# Altium schematic symbol library CD4000系列.SCHLIB: 168 symbols (part 1 of 2)
Pins are listed as number, name and electrical type; pins without a type are passive.

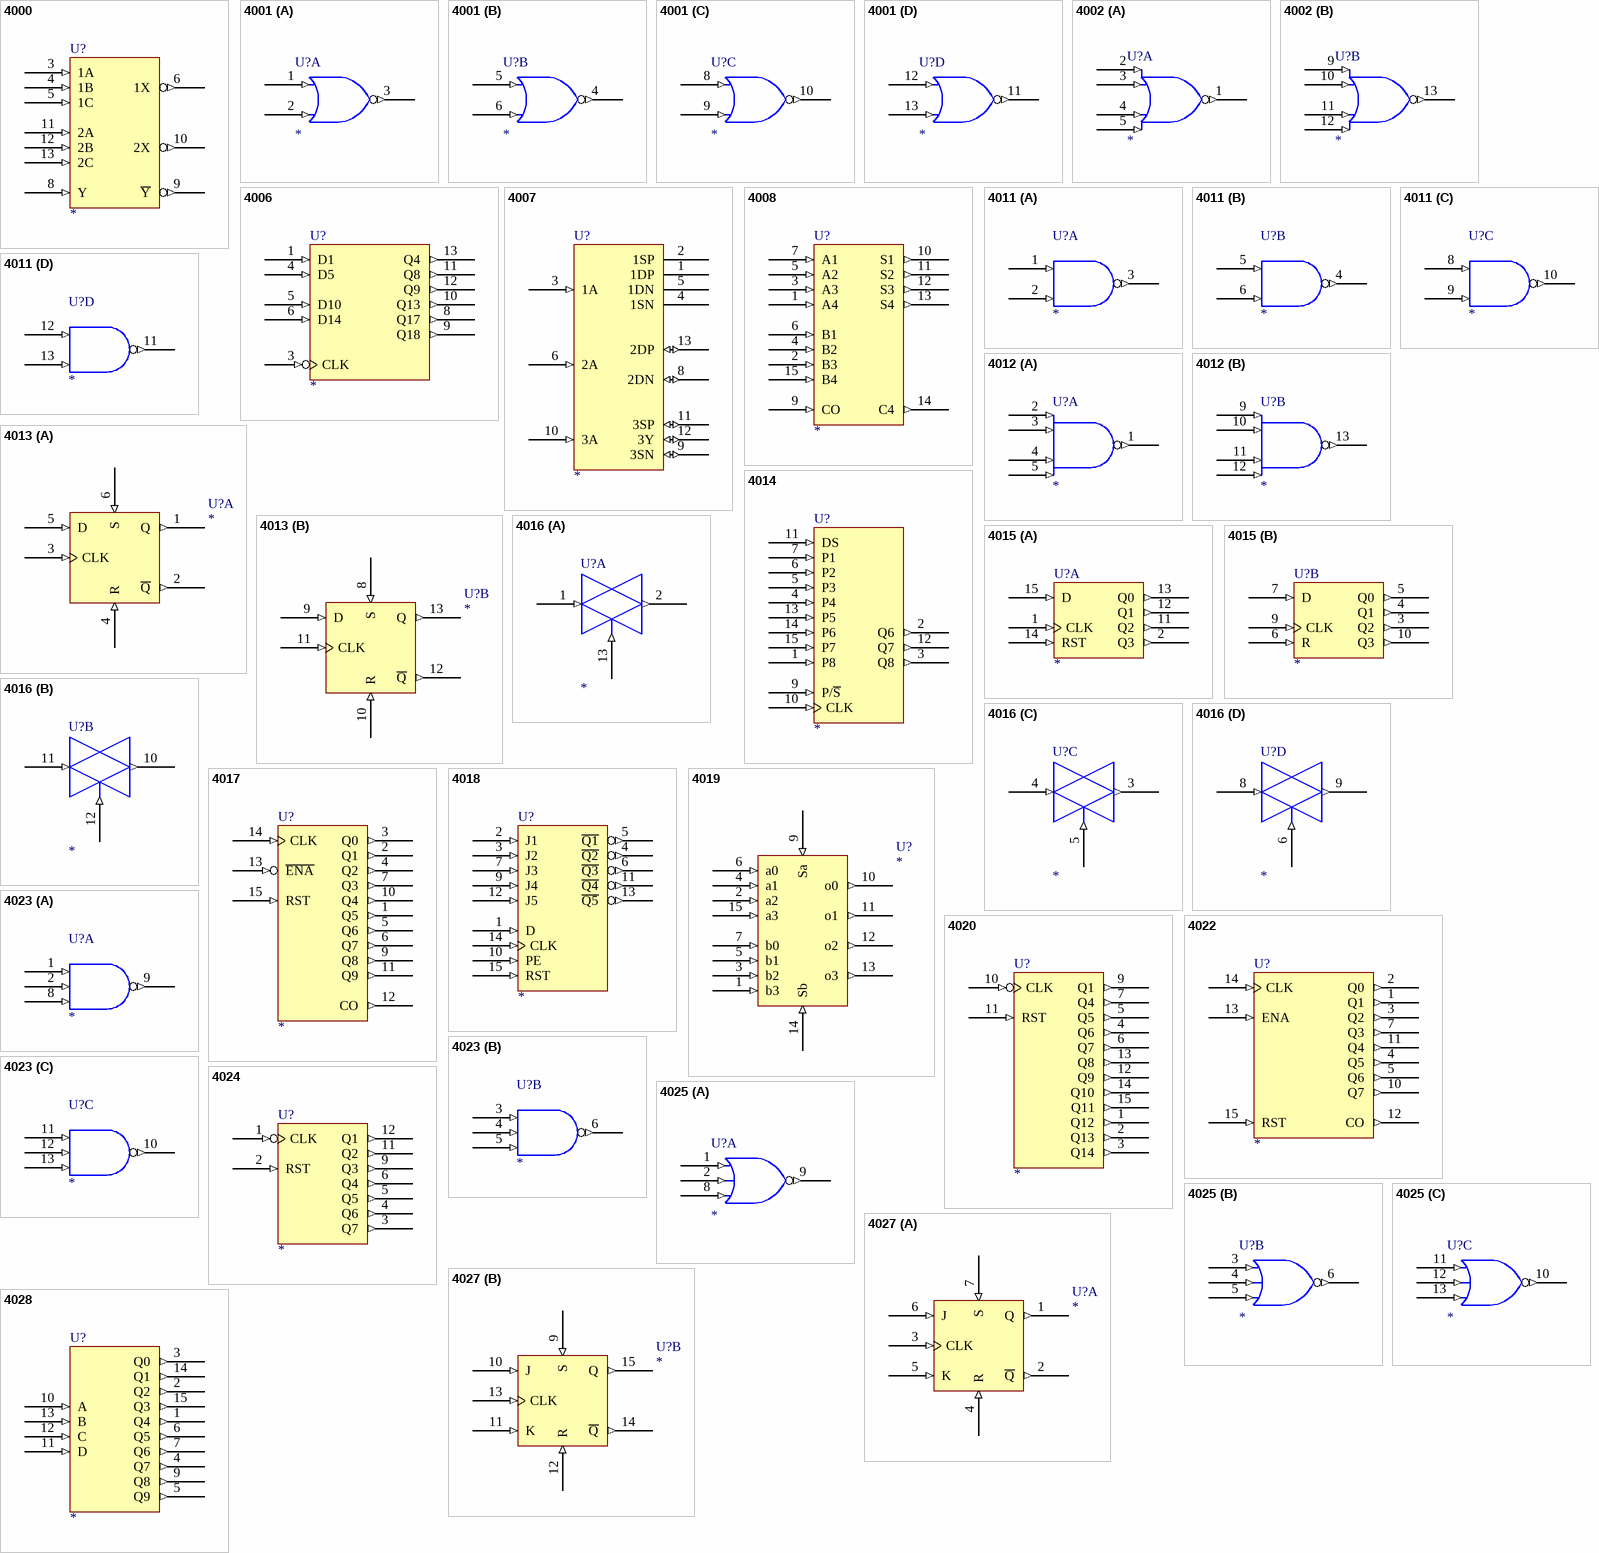
[diagram p0: symbols 4000 to 4028]

## 4000
designator U?
footprint SOP-14
pins: 3 1A (in), 4 1B (in), 5 1C (in), 6 1X (out), 7 GND (power) hidden to GND, 8 Y (in), 9 ~{Y} (out), 10 2X (out), 11 2A (in), 12 2B (in), 13 2C (in), 14 VCC (power) hidden to VCC

## 4001
designator U?
footprint DIP-14
part A pins: 1 (in), 2 (in), 3 (out), 7 GND (power) hidden to GND, 14 VCC (power) hidden to VCC
part B pins: 4 (out), 5 (in), 6 (in), 7 GND (power) hidden to GND, 14 VCC (power) hidden to VCC
part C pins: 7 GND (power) hidden to GND, 8 (in), 9 (in), 10 (out), 14 VCC (power) hidden to VCC
part D pins: 7 GND (power) hidden to GND, 11 (out), 12 (in), 13 (in), 14 VCC (power) hidden to VCC

## 4002
designator U?
footprint DIP-14
part A pins: 1 (out), 2 (in), 3 (in), 4 (in), 5 (in), 7 GND (power) hidden to GND, 14 VCC (power) hidden to VCC
part B pins: 7 GND (power) hidden to GND, 9 (in), 10 (in), 11 (in), 12 (in), 13 (out), 14 VCC (power) hidden to VCC

## 4006
designator U?
footprint DIP-14
pins: 1 D1 (in), 3 CLK (in), 4 D5 (in), 5 D10 (in), 6 D14 (in), 7 GND (power) hidden to GND, 8 Q17 (out), 9 Q18 (out), 10 Q13 (out), 11 Q8 (out), 12 Q9 (out), 13 Q4 (out), 14 VCC (power) hidden to VCC

## 4007
designator U?
footprint DIP-14
pins: 1 1DP (oc), 2 1SP (oc), 3 1A (in), 4 1SN (oc), 5 1DN (oc), 6 2A (in), 7 GND (in) hidden to GND, 8 2DN (io), 9 3SN (io), 10 3A (in), 11 3SP (io), 12 3Y (io), 13 2DP (io), 14 VCC (in) hidden to VCC

## 4008
designator U?
footprint DIP-16
pins: 1 A4 (in), 2 B3 (in), 3 A3 (in), 4 B2 (in), 5 A2 (in), 6 B1 (in), 7 A1 (in), 8 GND (power) hidden to GND, 9 CO (in), 10 S1 (out), 11 S2 (out), 12 S3 (out), 13 S4 (out), 14 C4 (out), 15 B4 (in), 16 VCC (power) hidden to VCC

## 4011
designator U?
footprint DIP-14
part A pins: 1 (in), 2 (in), 3 (out), 7 GND (power) hidden to GND, 14 VCC (power) hidden to VCC
part B pins: 4 (out), 5 (in), 6 (in), 7 GND (power) hidden to GND, 14 VCC (power) hidden to VCC
part C pins: 7 GND (power) hidden to GND, 8 (in), 9 (in), 10 (out), 14 VCC (power) hidden to VCC
part D pins: 7 GND (power) hidden to GND, 11 (out), 12 (in), 13 (in), 14 VCC (power) hidden to VCC

## 4012
designator U?
footprint DIP-14
part A pins: 1 (out), 2 (in), 3 (in), 4 (in), 5 (in), 7 GND (power) hidden to GND, 14 VCC (power) hidden to VCC
part B pins: 7 GND (power) hidden to GND, 9 (in), 10 (in), 11 (in), 12 (in), 13 (out), 14 VCC (power) hidden to VCC

## 4013
designator U?
footprint DIP-14
part A pins: 1 Q (out), 2 ~{Q} (out), 3 CLK (in), 4 R (in), 5 D (in), 6 S (in), 7 GND (power) hidden to GND, 14 VCC (power) hidden to VCC
part B pins: 7 GND (power) hidden to GND, 8 S (in), 9 D (in), 10 R (in), 11 CLK (in), 12 ~{Q} (out), 13 Q (out), 14 VCC (power) hidden to VCC

## 4014
designator U?
footprint DIP-16
pins: 1 P8 (in), 2 Q6 (out), 3 Q8 (out), 4 P4 (in), 5 P3 (in), 6 P2 (in), 7 P1 (in), 8 GND (power) hidden to GND, 9 P/~{S} (in), 10 CLK (in), 11 DS (in), 12 Q7 (out), 13 P5 (in), 14 P6 (in), 15 P7 (in), 16 VCC (power) hidden to VCC

## 4015
designator U?
footprint DIP-16
part A pins: 1 CLK (in), 2 Q3 (out), 8 GND (power) hidden to GND, 11 Q2 (out), 12 Q1 (out), 13 Q0 (out), 14 RST (in), 15 D (in), 16 VCC (power) hidden to VCC
part B pins: 3 Q2 (out), 4 Q1 (out), 5 Q0 (out), 6 R (in), 7 D (in), 8 GND (power) hidden to GND, 9 CLK (in), 10 Q3 (out), 16 VCC (power) hidden to VCC

## 4016
designator U?
footprint DIP-14
part A pins: 1 (in), 2 (out), 7 GND (power) hidden to GND, 13 (in), 14 VCC (power) hidden to VCC
part B pins: 7 GND (power) hidden to GND, 10 (out), 11 (in), 12 (in), 14 VCC (power) hidden to VCC
part C pins: 3 (out), 4 (in), 5 (in), 7 GND (power) hidden to GND, 14 VCC (power) hidden to VCC
part D pins: 6 (in), 7 GND (power) hidden to GND, 8 (in), 9 (out), 14 VCC (power) hidden to VCC

## 4017
designator U?
footprint DIP-16
pins: 1 Q5 (out), 2 Q1 (out), 3 Q0 (out), 4 Q2 (out), 5 Q6 (out), 6 Q7 (out), 7 Q3 (out), 8 GND (power) hidden to GND, 9 Q8 (out), 10 Q4 (out), 11 Q9 (out), 12 CO (out), 13 ~{ENA} (in), 14 CLK (in), 15 RST (in), 16 VCC (power) hidden to VCC

## 4018
designator U?
footprint DIP-16
pins: 1 D (in), 2 J1 (in), 3 J2 (in), 4 ~{Q2} (out), 5 ~{Q1} (out), 6 ~{Q3} (out), 7 J3 (in), 8 GND (power) hidden to GND, 9 J4 (in), 10 PE (in), 11 ~{Q4} (out), 12 J5 (in), 13 ~{Q5} (out), 14 CLK (in), 15 RST (in), 16 VCC (power) hidden to VCC

## 4019
designator U?
footprint DIP-16
pins: 1 b3 (in), 2 a2 (in), 3 b2 (in), 4 a1 (in), 5 b1 (in), 6 a0 (in), 7 b0 (in), 8 GND (power) hidden to GND, 9 Sa (in), 10 o0 (out), 11 o1 (out), 12 o2 (out), 13 o3 (out), 14 Sb (in), 15 a3 (in), 16 VCC (power) hidden to VCC

## 4020
designator U?
footprint DIP-16
pins: 1 Q12 (out), 2 Q13 (out), 3 Q14 (out), 4 Q6 (out), 5 Q5 (out), 6 Q7 (out), 7 Q4 (out), 8 GND (power) hidden to GND, 9 Q1 (out), 10 CLK (in), 11 RST (in), 12 Q9 (out), 13 Q8 (out), 14 Q10 (out), 15 Q11 (out), 16 VCC (power) hidden to VCC

## 4022
designator U?
footprint DIP-16
pins: 1 Q1 (out), 2 Q0 (out), 3 Q2 (out), 4 Q5 (out), 5 Q6 (out), 7 Q3 (out), 8 GND (power) hidden to GND, 10 Q7 (out), 11 Q4 (out), 12 CO (out), 13 ENA (in), 14 CLK (in), 15 RST (in), 16 VCC (power) hidden to VCC

## 4023
designator U?
footprint DIP-14
part A pins: 1 (in), 2 (in), 7 GND (power) hidden to GND, 8 (in), 9 (out), 14 VCC (power) hidden to VCC
part B pins: 3 (in), 4 (in), 5 (in), 6 (out), 7 GND (power) hidden to GND, 14 VCC (power) hidden to VCC
part C pins: 7 GND (power) hidden to GND, 10 (out), 11 (in), 12 (in), 13 (in), 14 VCC (power) hidden to VCC

## 4024
designator U?
footprint DIP-14
pins: 1 CLK (in), 2 RST (in), 3 Q7 (out), 4 Q6 (out), 5 Q5 (out), 6 Q4 (out), 7 GND (power) hidden to GND, 9 Q3 (out), 11 Q2 (out), 12 Q1 (out), 14 VCC (power) hidden to VCC

## 4025
designator U?
footprint DIP-14
part A pins: 1 (in), 2 (in), 7 GND (power) hidden to GND, 8 (in), 9 (out), 14 VCC (power) hidden to VCC
part B pins: 3 (in), 4 (in), 5 (in), 6 (out), 7 GND (power) hidden to GND, 14 VCC (power) hidden to VCC
part C pins: 7 GND (power) hidden to GND, 10 (out), 11 (in), 12 (in), 13 (in), 14 VCC (power) hidden to VCC

## 4027
designator U?
footprint DIP-16
part A pins: 1 Q (out), 2 ~{Q} (out), 3 CLK (in), 4 R (in), 5 K (in), 6 J (in), 7 S (in), 16 VCC (power) hidden to VCC
part B pins: 9 S (in), 10 J (in), 11 K (in), 12 R (in), 13 CLK (in), 14 ~{Q} (out), 15 Q (out), 16 VCC (power) hidden to VCC

## 4028
designator U?
footprint DIP-16
pins: 1 Q4 (out), 2 Q2 (out), 3 Q0 (out), 4 Q7 (out), 5 Q9 (out), 6 Q5 (out), 7 Q6 (out), 8 GND (power) hidden to GND, 9 Q8 (out), 10 A (in), 11 D (in), 12 C (in), 13 B (in), 14 Q1 (out), 15 Q3 (out), 16 VCC (power) hidden to VCC

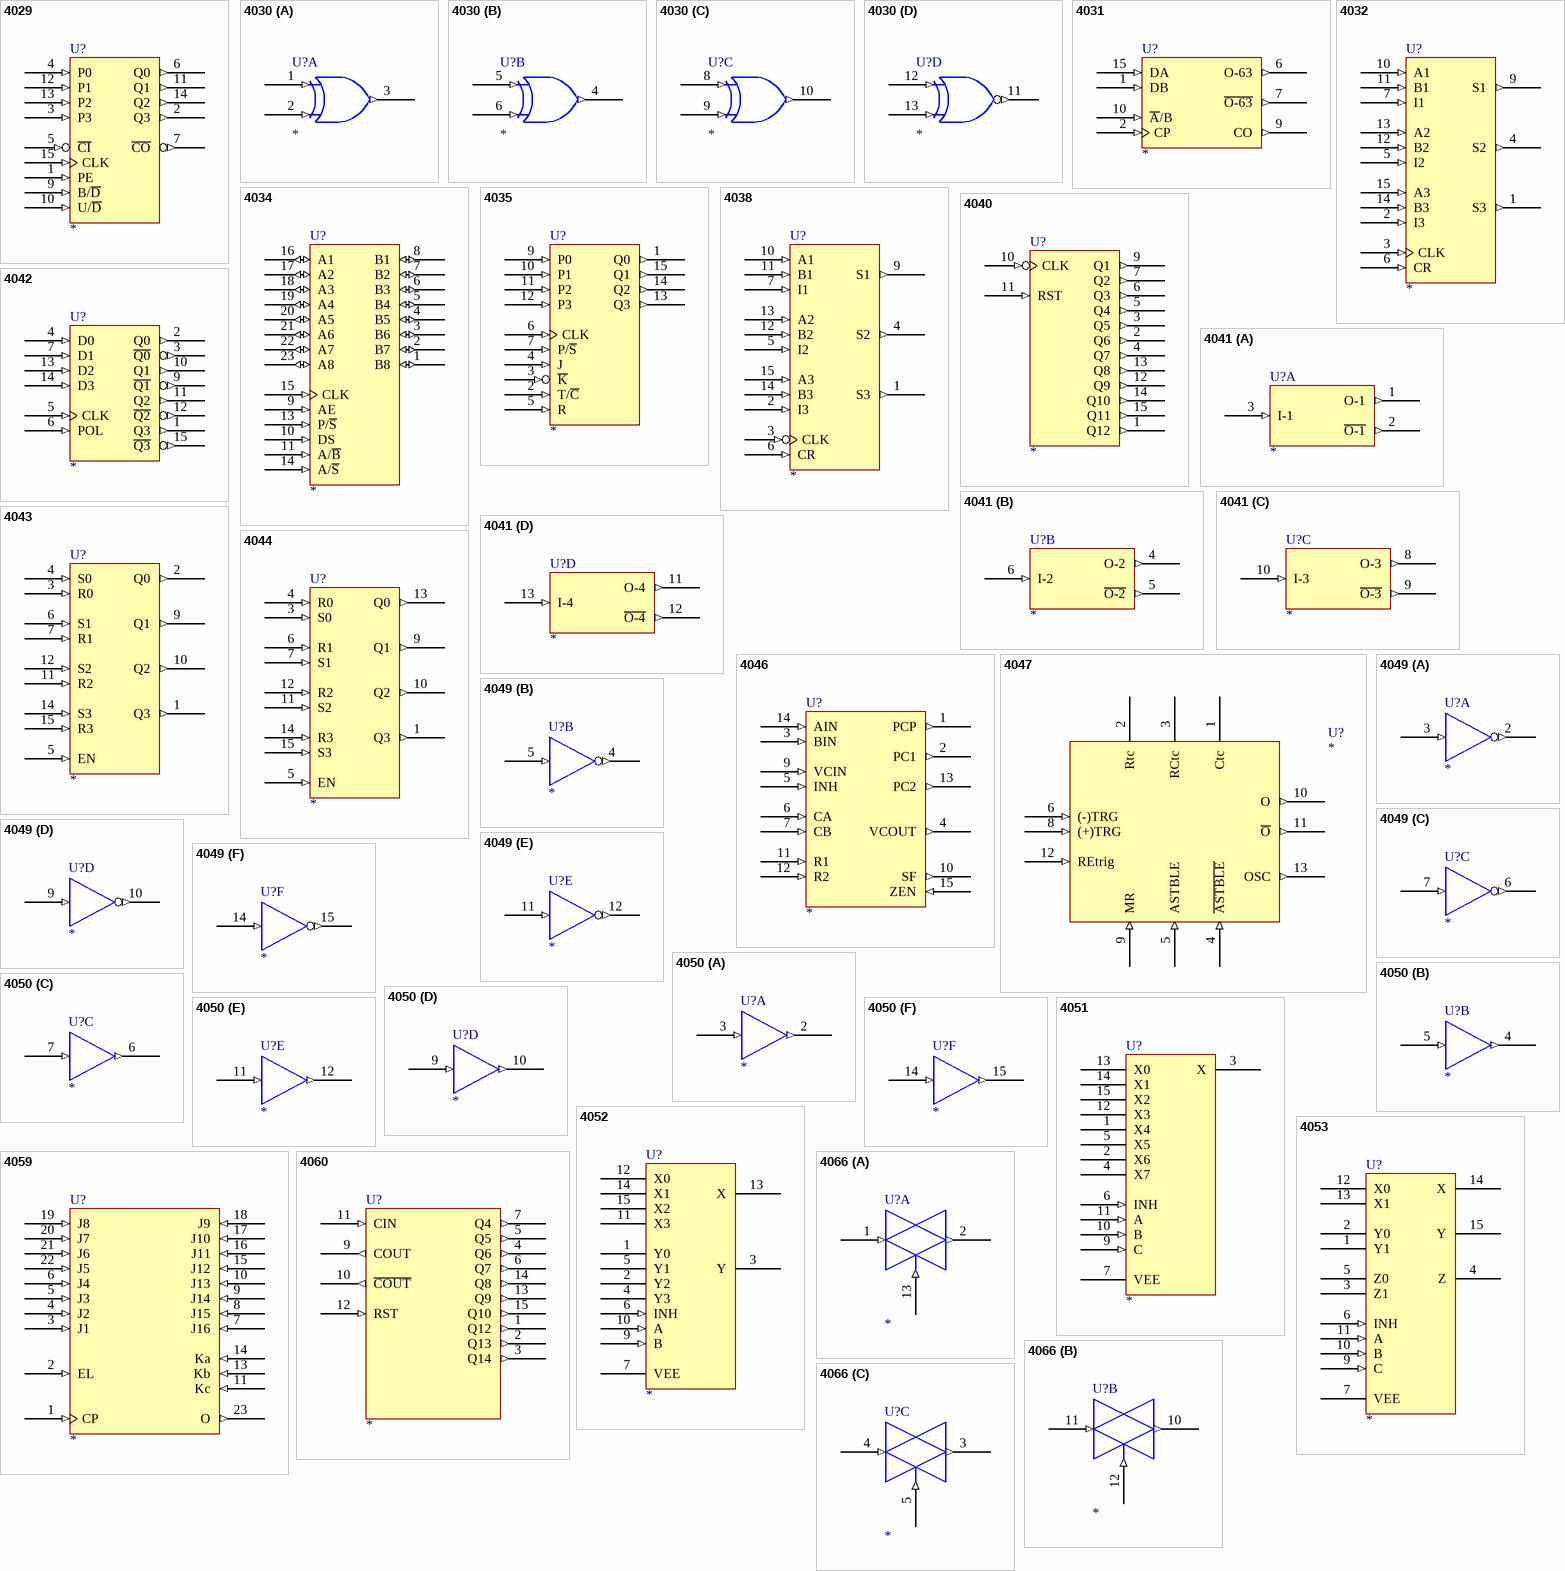
[diagram p1: symbols 4029 to 4066]

## 4029
designator U?
footprint DIP-16
pins: 1 PE (in), 2 Q3 (out), 3 P3 (in), 4 P0 (in), 5 ~{CI} (in), 6 Q0 (out), 7 ~{CO} (out), 8 GND (power) hidden to GND, 9 B/~{D} (in), 10 U/~{D} (in), 11 Q1 (out), 12 P1 (in), 13 P2 (in), 14 Q2 (out), 15 CLK (in), 16 VCC (power) hidden to VCC

## 4030
designator U?
footprint DIP-14
part A pins: 1 (in), 2 (in), 3 (out), 7 GND (power) hidden to GND, 14 VCC (power) hidden to VCC
part B pins: 4 (out), 5 (in), 6 (in), 7 GND (power) hidden to GND, 14 VCC (power) hidden to VCC
part C pins: 7 GND (power) hidden to GND, 8 (in), 9 (in), 10 (out), 14 VCC (power) hidden to VCC
part D pins: 7 GND (power) hidden to GND, 11 (out), 12 (in), 13 (in), 14 VCC (power) hidden to VCC

## 4031
designator U?
footprint DIP-16
pins: 1 DB (in), 2 CP (in), 6 O-63 (out), 7 ~{O-63} (out), 8 GND (power) hidden to GND, 9 CO (out), 10 ~{A}/B (in), 15 DA (in), 16 VCC (power) hidden to VCC

## 4032
designator U?
footprint DIP-16
pins: 1 S3 (out), 2 I3 (in), 3 CLK (in), 4 S2 (out), 5 I2 (in), 6 CR (in), 7 I1 (in), 8 GND (power) hidden to GND, 9 S1 (out), 10 A1 (in), 11 B1 (in), 12 B2 (in), 13 A2 (in), 14 B3 (in), 15 A3 (in), 16 VCC (power) hidden to VCC

## 4034
designator U?
footprint DIP-24
pins: 1 B8 (io), 2 B7 (io), 3 B6 (io), 4 B5 (io), 5 B4 (io), 6 B3 (io), 7 B2 (io), 8 B1 (io), 9 AE (in), 10 DS (in), 11 A/~{B} (in), 12 GND (power) hidden to GND, 13 P/~{S} (in), 14 A/~{S} (in), 15 CLK (in), 16 A1 (io), 17 A2 (io), 18 A3 (io), 19 A4 (io), 20 A5 (io), 21 A6 (io), 22 A7 (io), 23 A8 (io), 24 VCC (power) hidden to VCC

## 4035
designator U?
footprint DIP-16
pins: 1 Q0 (out), 2 T/~{C} (in), 3 ~{K} (in), 4 J (in), 5 R (in), 6 CLK (in), 7 P/~{S} (in), 8 GND (power) hidden to GND, 9 P0 (in), 10 P1 (in), 11 P2 (in), 12 P3 (in), 13 Q3 (out), 14 Q2 (out), 15 Q1 (out), 16 VCC (power) hidden to VCC

## 4038
designator U?
footprint DIP-16
pins: 1 S3 (out), 2 I3 (in), 3 CLK (in), 4 S2 (out), 5 I2 (in), 6 CR (in), 7 I1 (in), 8 GND (power) hidden to GND, 9 S1 (out), 10 A1 (in), 11 B1 (in), 12 B2 (in), 13 A2 (in), 14 B3 (in), 15 A3 (in), 16 VCC (power) hidden to VCC

## 4040
designator U?
footprint DIP-16
pins: 1 Q12 (out), 2 Q6 (out), 3 Q5 (out), 4 Q7 (out), 5 Q4 (out), 6 Q3 (out), 7 Q2 (out), 8 GND (power) hidden to GND, 9 Q1 (out), 10 CLK (in), 11 RST (in), 12 Q9 (out), 13 Q8 (out), 14 Q10 (out), 15 Q11 (out), 16 VCC (power) hidden to VCC

## 4041
designator U?
footprint DIP-14
part A pins: 1 O-1 (out), 2 ~{O-1} (out), 3 I-1 (in), 7 GND (power) hidden to GND, 14 VCC (power) hidden to VCC
part B pins: 4 O-2 (out), 5 ~{O-2} (out), 6 I-2 (in), 7 GND (power) hidden to GND, 14 VCC (power) hidden to VCC
part C pins: 7 GND (power) hidden to GND, 8 O-3 (out), 9 ~{O-3} (out), 10 I-3 (in), 14 VCC (power) hidden to VCC
part D pins: 7 GND (power) hidden to GND, 11 O-4 (out), 12 ~{O-4} (out), 13 I-4 (in), 14 VCC (power) hidden to VCC

## 4042
designator U?
footprint DIP-16
pins: 1 Q3 (out), 2 Q0 (out), 3 ~{Q0} (out), 4 D0 (in), 5 CLK (in), 6 POL (in), 7 D1 (in), 8 GND (power) hidden to GND, 9 ~{Q1} (out), 10 Q1 (out), 11 Q2 (out), 12 ~{Q2} (out), 13 D2 (in), 14 D3 (in), 15 ~{Q3} (out), 16 VCC (power) hidden to VCC

## 4043
designator U?
footprint DIP-16
pins: 1 Q3 (out), 2 Q0 (out), 3 R0 (in), 4 S0 (in), 5 EN (in), 6 S1 (in), 7 R1 (in), 8 GND (power) hidden to GND, 9 Q1 (out), 10 Q2 (out), 11 R2 (in), 12 S2 (in), 14 S3 (in), 15 R3 (in), 16 VCC (power) hidden to VCC

## 4044
designator U?
footprint DIP-16
pins: 1 Q3 (out), 3 S0 (in), 4 R0 (in), 5 EN (in), 6 R1 (in), 7 S1 (in), 8 GND (power) hidden to GND, 9 Q1 (out), 10 Q2 (out), 11 S2 (in), 12 R2 (in), 13 Q0 (out), 14 R3 (in), 15 S3 (in), 16 VCC (power) hidden to VCC

## 4046
designator U?
footprint DIP-16
pins: 1 PCP (out), 2 PC1 (out), 3 BIN (in), 4 VCOUT (out), 5 INH (in), 6 CA (in), 7 CB (in), 8 GND (power) hidden to GND, 9 VCIN (in), 10 SF (out), 11 R1 (in), 12 R2 (in), 13 PC2 (out), 14 AIN (in), 15 ZEN (in), 16 VCC (power) hidden to VCC

## 4047
designator U?
footprint DIP-14
pins: 1 Ctc, 2 Rtc, 3 RCtc, 4 ~{ASTBLE} (in), 5 ASTBLE (in), 6 (-)TRG (in), 7 GND (power) hidden to GND, 8 (+)TRG (in), 9 MR (in), 10 O (out), 11 ~{O} (out), 12 REtrig (in), 13 OSC (out), 14 VCC (power) hidden to VCC

## 4049
designator U?
footprint DIP-16
part A pins: 1 VCC (power) hidden to VCC, 2 (out), 3 (in), 8 GND (power) hidden to GND
part B pins: 1 VCC (power) hidden to VCC, 4 (out), 5 (in), 8 GND (power) hidden to GND
part C pins: 1 VCC (power) hidden to VCC, 6 (out), 7 (in), 8 GND (power) hidden to GND
part D pins: 1 VCC (power) hidden to VCC, 8 GND (power) hidden to GND, 9 (in), 10 (out)
part E pins: 1 VCC (power) hidden to VCC, 8 GND (power) hidden to GND, 11 (in), 12 (out)
part F pins: 1 VCC (power) hidden to VCC, 8 GND (power) hidden to GND, 14 (in), 15 (out)

## 4050
designator U?
footprint DIP-16
part A pins: 1 VCC (power) hidden to VCC, 2 (out), 3 (in), 8 GND (power) hidden to GND
part B pins: 1 VCC (power) hidden to VCC, 4 (out), 5 (in), 8 GND (power) hidden to GND
part C pins: 1 VCC (power) hidden to VCC, 6 (out), 7 (in), 8 GND (power) hidden to GND
part D pins: 1 VCC (power) hidden to VCC, 8 GND (power) hidden to GND, 9 (in), 10 (out)
part E pins: 1 VCC (power) hidden to VCC, 8 GND (power) hidden to GND, 11 (in), 12 (out)
part F pins: 1 VCC (power) hidden to VCC, 8 GND (power) hidden to GND, 14 (in), 15 (out)

## 4051
designator U?
footprint DIP-16
pins: 1 X4, 2 X6, 3 X, 4 X7, 5 X5, 6 INH (in), 7 VEE, 8 GND (power) hidden to GND, 9 C (in), 10 B (in), 11 A (in), 12 X3, 13 X0, 14 X1, 15 X2, 16 VCC (power) hidden to VCC

## 4052
designator U?
footprint DIP-16
pins: 1 Y0, 2 Y2, 3 Y, 4 Y3, 5 Y1, 6 INH (in), 7 VEE, 8 GND (power) hidden to GND, 9 B (in), 10 A (in), 11 X3, 12 X0, 13 X, 14 X1, 15 X2, 16 VCC (power) hidden to VCC

## 4053
designator U?
footprint DIP-16
pins: 1 Y1, 2 Y0, 3 Z1, 4 Z, 5 Z0, 6 INH (in), 7 VEE, 8 GND (power) hidden to GND, 9 C (in), 10 B (in), 11 A (in), 12 X0, 13 X1, 14 X, 15 Y, 16 VCC (power) hidden to VCC

## 4059
designator U?
footprint DIP-24
pins: 1 CP (in), 2 EL (in), 3 J1 (in), 4 J2 (in), 5 J3 (in), 6 J4 (in), 7 J16 (in), 8 J15 (in), 9 J14 (in), 10 J13 (in), 11 Kc (in), 12 GND (power) hidden to GND, 13 Kb (in), 14 Ka (in), 15 J12 (in), 16 J11 (in), 17 J10 (in), 18 J9 (in), 19 J8 (in), 20 J7 (in), 21 J6 (in), 22 J5 (in), 23 O (out), 24 VCC (power) hidden to VCC

## 4060
designator U?
footprint DIP-16
pins: 1 Q12 (out), 2 Q13 (out), 3 Q14 (out), 4 Q6 (out), 5 Q5 (out), 6 Q7 (out), 7 Q4 (out), 8 GND (power) hidden to GND, 9 COUT (out), 10 ~{COUT} (out), 11 CIN (in), 12 RST (in), 13 Q9 (out), 14 Q8 (out), 15 Q10 (out), 16 VCC (power) hidden to VCC

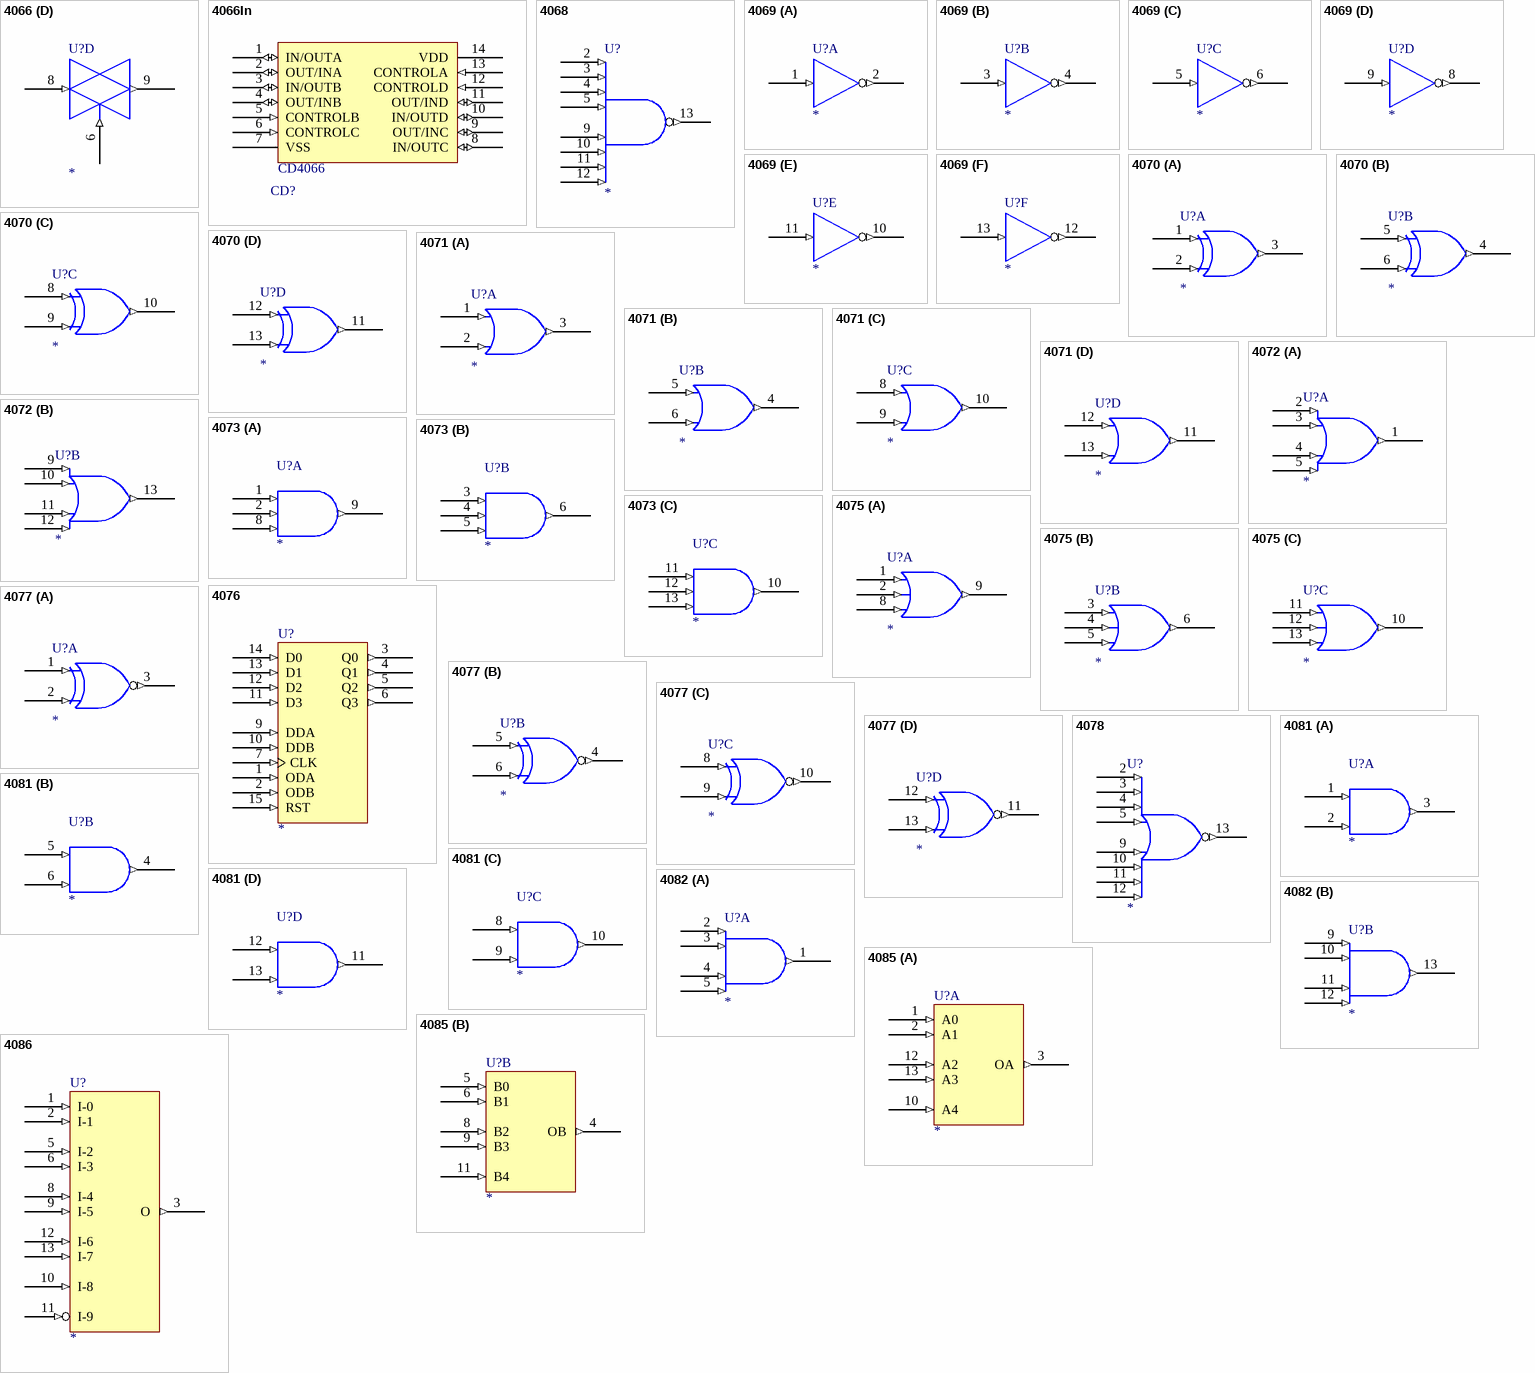
[diagram p2: symbols 4066 to 4086]

## 4066
designator U?
footprint DIP-14
footprint SOP-14
part A pins: 1 (in), 2 (out), 7 GND (power) hidden to GND, 13 (in), 14 VCC (power) hidden to VCC
part B pins: 7 GND (power) hidden to GND, 10 (out), 11 (in), 12 (in), 14 VCC (power) hidden to VCC
part C pins: 3 (out), 4 (in), 5 (in), 7 GND (power) hidden to GND, 14 VCC (power) hidden to VCC
part D pins: 6 (in), 7 GND (power) hidden to GND, 8 (in), 9 (out), 14 VCC (power) hidden to VCC

## 4066In
designator CD?  (value not drawn)
Auther: JonesLee; Publish: 09.Feb.2014
footprint SOP-14
pins: 1 IN/OUTA (io), 2 OUT/INA (io), 3 IN/OUTB (io), 4 OUT/INB (io), 5 CONTROLB (in), 6 CONTROLC (in), 7 VSS (power), 8 IN/OUTC (io), 9 OUT/INC (io), 10 IN/OUTD (io), 11 OUT/IND (io), 12 CONTROLD (in), 13 CONTROLA (in), 14 VDD (power)
text: CD4066

## 4068
designator U?
footprint DIP-14
pins: 2 (in), 3 (in), 4 (in), 5 (in), 7 GND (power) hidden to GND, 9 (in), 10 (in), 11 (in), 12 (in), 13 (out), 14 VCC (power) hidden to VCC

## 4069
designator U?
footprint DIP-14
part A pins: 1 (in), 2 (out), 7 GND (power) hidden to GND, 14 VCC (power) hidden to VCC
part B pins: 3 (in), 4 (out), 7 GND (power) hidden to GND, 14 VCC (power) hidden to VCC
part C pins: 5 (in), 6 (out), 7 GND (power) hidden to GND, 14 VCC (power) hidden to VCC
part D pins: 7 GND (power) hidden to GND, 8 (out), 9 (in), 14 VCC (power) hidden to VCC
part E pins: 7 GND (power) hidden to GND, 10 (out), 11 (in), 14 VCC (power) hidden to VCC
part F pins: 7 GND (power) hidden to GND, 12 (out), 13 (in), 14 VCC (power) hidden to VCC

## 4070
designator U?
footprint DIP-14
part A pins: 1 (in), 2 (in), 3 (out), 7 GND (power) hidden to GND, 14 VCC (power) hidden to VCC
part B pins: 4 (out), 5 (in), 6 (in), 7 GND (power) hidden to GND, 14 VCC (power) hidden to VCC
part C pins: 7 GND (power) hidden to GND, 8 (in), 9 (in), 10 (out), 14 VCC (power) hidden to VCC
part D pins: 7 GND (power) hidden to GND, 11 (out), 12 (in), 13 (in), 14 VCC (power) hidden to VCC

## 4071
designator U?
footprint DIP-14
part A pins: 1 (in), 2 (in), 3 (out), 7 GND (power) hidden to GND, 14 VCC (power) hidden to VCC
part B pins: 4 (out), 5 (in), 6 (in), 7 GND (power) hidden to GND, 14 VCC (power) hidden to VCC
part C pins: 7 GND (power) hidden to GND, 8 (in), 9 (in), 10 (out), 14 VCC (power) hidden to VCC
part D pins: 7 GND (power) hidden to GND, 11 (out), 12 (in), 13 (in), 14 VCC (power) hidden to VCC

## 4072
designator U?
footprint DIP-14
part A pins: 1 (out), 2 (in), 3 (in), 4 (in), 5 (in), 7 GND (power) hidden to GND, 14 VCC (power) hidden to VCC
part B pins: 7 GND (power) hidden to GND, 9 (in), 10 (in), 11 (in), 12 (in), 13 (out), 14 VCC (power) hidden to VCC

## 4073
designator U?
footprint DIP-14
part A pins: 1 (in), 2 (in), 7 GND (power) hidden to GND, 8 (in), 9 (out), 14 VCC (power) hidden to VCC
part B pins: 3 (in), 4 (in), 5 (in), 6 (out), 7 GND (power) hidden to GND, 14 VCC (power) hidden to VCC
part C pins: 7 GND (power) hidden to GND, 10 (out), 11 (in), 12 (in), 13 (in), 14 VCC (power) hidden to VCC

## 4075
designator U?
footprint DIP-14
part A pins: 1 (in), 2 (in), 7 GND (power) hidden to GND, 8 (in), 9 (out), 14 VCC (power) hidden to VCC
part B pins: 3 (in), 4 (in), 5 (in), 6 (out), 7 GND (power) hidden to GND, 14 VCC (power) hidden to VCC
part C pins: 7 GND (power) hidden to GND, 10 (out), 11 (in), 12 (in), 13 (in), 14 VCC (power) hidden to VCC

## 4076
designator U?
footprint DIP-16
pins: 1 ODA (in), 2 ODB (in), 3 Q0 (out), 4 Q1 (out), 5 Q2 (out), 6 Q3 (out), 7 CLK (in), 8 GND (power) hidden to GND, 9 DDA (in), 10 DDB (in), 11 D3 (in), 12 D2 (in), 13 D1 (in), 14 D0 (in), 15 RST (in), 16 VCC (power) hidden to VCC

## 4077
designator U?
footprint DIP-14
part A pins: 1 (in), 2 (in), 3 (out), 7 GND (power) hidden to GND, 14 VCC (power) hidden to VCC
part B pins: 4 (out), 5 (in), 6 (in), 7 GND (power) hidden to GND, 14 VCC (power) hidden to VCC
part C pins: 7 GND (power) hidden to GND, 8 (in), 9 (in), 10 (out), 14 VCC (power) hidden to VCC
part D pins: 7 GND (power) hidden to GND, 11 (out), 12 (in), 13 (in), 14 VCC (power) hidden to VCC

## 4078
designator U?
footprint DIP-14
pins: 2 (in), 3 (in), 4 (in), 5 (in), 7 GND (power) hidden to GND, 9 (in), 10 (in), 11 (in), 12 (in), 13 (out), 14 VCC (power) hidden to VCC

## 4081
designator U?
footprint DIP-14
part A pins: 1 (in), 2 (in), 3 (out), 7 GND (power) hidden to GND, 14 VCC (power) hidden to VCC
part B pins: 4 (out), 5 (in), 6 (in), 7 GND (power) hidden to GND, 14 VCC (power) hidden to VCC
part C pins: 7 GND (power) hidden to GND, 8 (in), 9 (in), 10 (out), 14 VCC (power) hidden to VCC
part D pins: 7 GND (power) hidden to GND, 11 (out), 12 (in), 13 (in), 14 VCC (power) hidden to VCC

## 4082
designator U?
footprint DIP-14
part A pins: 1 (out), 2 (in), 3 (in), 4 (in), 5 (in), 7 GND (power) hidden to GND, 14 VCC (power) hidden to VCC
part B pins: 7 GND (power) hidden to GND, 9 (in), 10 (in), 11 (in), 12 (in), 13 (out), 14 VCC (power) hidden to VCC

## 4085
designator U?
footprint DIP-14
part A pins: 1 A0 (in), 2 A1 (in), 3 OA (out), 7 GND (power) hidden to GND, 10 A4 (in), 12 A2 (in), 13 A3 (in), 14 VCC (power) hidden to VCC
part B pins: 4 OB (out), 5 B0 (in), 6 B1 (in), 7 GND (power) hidden to GND, 8 B2 (in), 9 B3 (in), 11 B4 (in), 14 VCC (power) hidden to VCC

## 4086
designator U?
footprint DIP-14
pins: 1 I-0 (in), 2 I-1 (in), 3 O (out), 5 I-2 (in), 6 I-3 (in), 7 GND (power) hidden to GND, 8 I-4 (in), 9 I-5 (in), 10 I-8 (in), 11 I-9 (in), 12 I-6 (in), 13 I-7 (in), 14 VCC (power) hidden to VCC

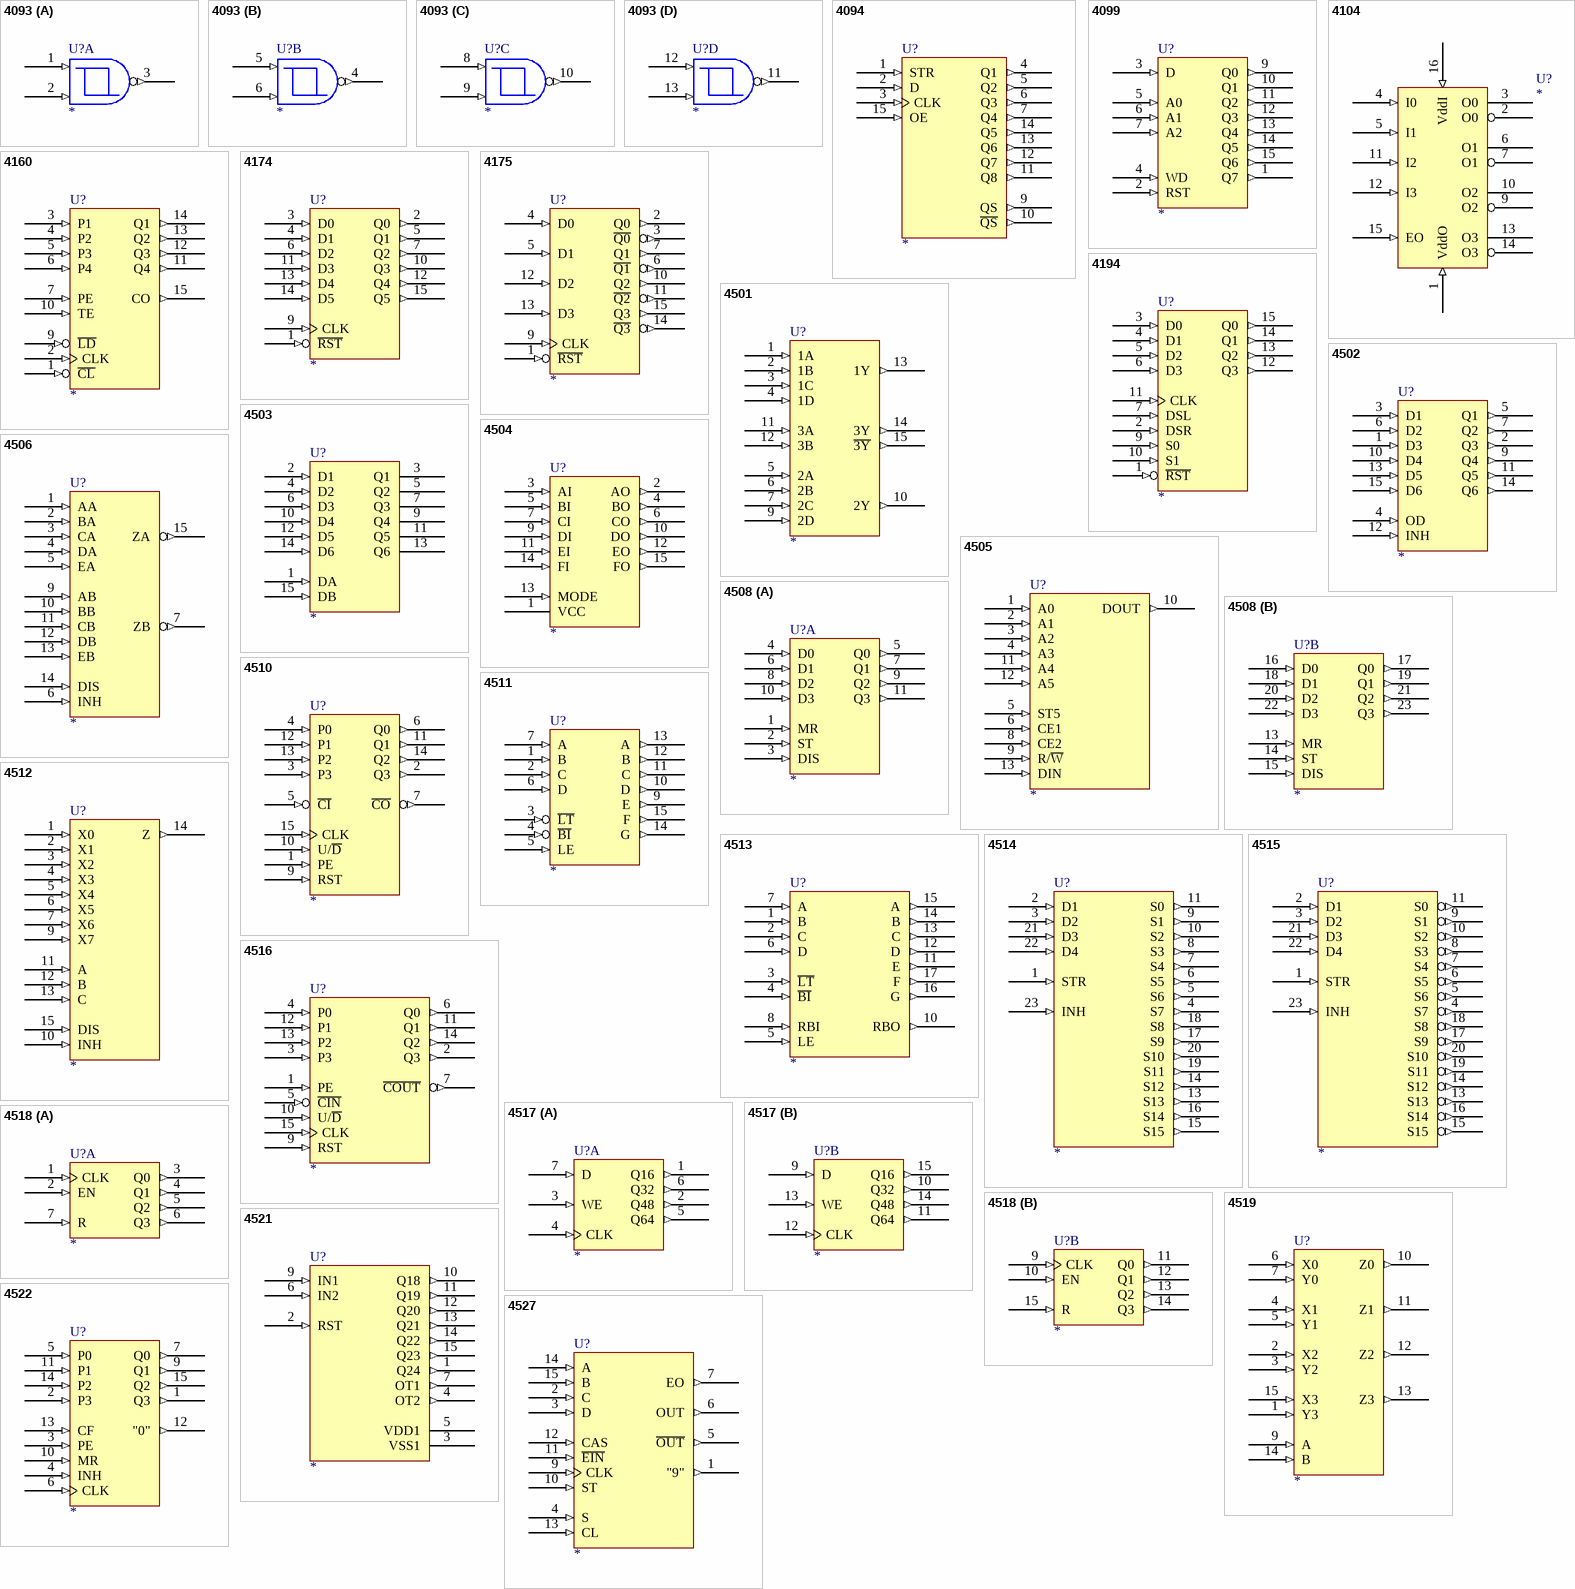
[diagram p3: symbols 4093 to 4527]

## 4093
designator U?
footprint DIP-14
part A pins: 1 (in), 2 (in), 3 (out), 7 GND (power) hidden to GND, 14 VCC (power) hidden to VCC
part B pins: 4 (out), 5 (in), 6 (in), 7 GND (power) hidden to GND, 14 VCC (power) hidden to VCC
part C pins: 7 GND (power) hidden to GND, 8 (in), 9 (in), 10 (out), 14 VCC (power) hidden to VCC
part D pins: 7 GND (power) hidden to GND, 11 (out), 12 (in), 13 (in), 14 VCC (power) hidden to VCC

## 4094
designator U?
footprint DIP-16
pins: 1 STR (in), 2 D (in), 3 CLK (in), 4 Q1 (out), 5 Q2 (out), 6 Q3 (out), 7 Q4 (out), 8 GND (power) hidden to GND, 9 QS (out), 10 ~{QS} (out), 11 Q8 (out), 12 Q7 (out), 13 Q6 (out), 14 Q5 (out), 15 OE (in), 16 VCC (power) hidden to VCC

## 4099
designator U?
footprint DIP-16
pins: 1 Q7 (out), 2 RST (in), 3 D (in), 4 WD (in), 5 A0 (in), 6 A1 (in), 7 A2 (in), 8 GND (power) hidden to GND, 9 Q0 (out), 10 Q1 (out), 11 Q2 (out), 12 Q3 (out), 13 Q4 (out), 14 Q5 (out), 15 Q6 (out), 16 VCC (power) hidden to VCC

## 4104
designator U?
footprint DIP-16
pins: 1 VddO (in), 2 O0 (hiz), 3 O0 (hiz), 4 I0 (in), 5 I1 (in), 6 O1 (hiz), 7 O1 (hiz), 8 GND (power) hidden to GND, 9 O2 (hiz), 10 O2 (hiz), 11 I2 (in), 12 I3 (in), 13 O3 (hiz), 14 O3 (hiz), 15 EO (in), 16 VddI (in)

## 4160
designator U?
footprint DIP-16
pins: 1 ~{CL} (in), 2 CLK (in), 3 P1 (in), 4 P2 (in), 5 P3 (in), 6 P4 (in), 7 PE (in), 8 GND (power) hidden to GND, 9 ~{LD} (in), 10 TE (in), 11 Q4 (out), 12 Q3 (out), 13 Q2 (out), 14 Q1 (out), 15 CO (out), 16 VCC (power) hidden to VCC

## 4174
designator U?
footprint DIP-16
pins: 1 ~{RST} (in), 2 Q0 (out), 3 D0 (in), 4 D1 (in), 5 Q1 (out), 6 D2 (in), 7 Q2 (out), 8 GND (power) hidden to GND, 9 CLK (in), 10 Q3 (out), 11 D3 (in), 12 Q4 (out), 13 D4 (in), 14 D5 (in), 15 Q5 (out), 16 VCC (power) hidden to VCC

## 4175
designator U?
footprint DIP-16
pins: 1 ~{RST} (in), 2 Q0 (out), 3 ~{Q0} (out), 4 D0 (in), 5 D1 (in), 6 ~{Q1} (out), 7 Q1 (out), 8 GND (power) hidden to GND, 9 CLK (in), 10 Q2 (out), 11 ~{Q2} (out), 12 D2 (in), 13 D3 (in), 14 ~{Q3} (out), 15 Q3 (out), 16 VCC (power) hidden to VCC

## 4194
designator U?
footprint DIP-16
pins: 1 ~{RST} (in), 2 DSR (in), 3 D0 (in), 4 D1 (in), 5 D2 (in), 6 D3 (in), 7 DSL (in), 8 GND (power) hidden to GND, 9 S0 (in), 10 S1 (in), 11 CLK (in), 12 Q3 (out), 13 Q2 (out), 14 Q1 (out), 15 Q0 (out), 16 VCC (power) hidden to VCC

## 4501
designator U?
footprint DIP-16
pins: 1 1A (in), 2 1B (in), 3 1C (in), 4 1D (in), 5 2A (in), 6 2B (in), 7 2C (in), 8 GND (power) hidden to GND, 9 2D (in), 10 2Y (out), 11 3A (in), 12 3B (in), 13 1Y (out), 14 3Y (out), 15 ~{3Y} (out), 16 VCC (power) hidden to VCC

## 4502
designator U?
footprint DIP-16
pins: 1 D3 (in), 2 Q3 (out), 3 D1 (in), 4 OD (in), 5 Q1 (out), 6 D2 (in), 7 Q2 (out), 8 GND (power) hidden to GND, 9 Q4 (out), 10 D4 (in), 11 Q5 (out), 12 INH (in), 13 D5 (in), 14 Q6 (out), 15 D6 (in), 16 VCC (power) hidden to VCC

## 4503
designator U?
footprint DIP-16
pins: 1 DA (in), 2 D1 (in), 3 Q1 (hiz), 4 D2 (in), 5 Q2 (hiz), 6 D3 (in), 7 Q3 (hiz), 8 GND (power) hidden to GND, 9 Q4 (hiz), 10 D4 (in), 11 Q5 (hiz), 12 D5 (in), 13 Q6 (hiz), 14 D6 (in), 15 DB (in), 16 VCC (power) hidden to VCC

## 4504
designator U?
footprint DIP-16
pins: 1 VCC (power), 2 AO (out), 3 AI (in), 4 BO (out), 5 BI (in), 6 CO (out), 7 CI (in), 8 GND (power) hidden to GND, 9 DI (in), 10 DO (out), 11 EI (in), 12 EO (out), 13 MODE (in), 14 FI (in), 15 FO (out), 16 VCC (power) hidden to VCC

## 4505
designator U?
footprint DIP-14
pins: 1 A0 (in), 2 A1 (in), 3 A2 (in), 4 A3 (in), 5 ST5 (in), 6 CE1 (in), 7 GND (power) hidden to GND, 8 CE2 (in), 9 R/~{W} (in), 10 DOUT (out), 11 A4 (in), 12 A5 (in), 13 DIN (in), 14 VCC (power) hidden to VCC

## 4506
designator U?
footprint DIP-16
pins: 1 AA (in), 2 BA (in), 3 CA (in), 4 DA (in), 5 EA (in), 6 INH (in), 7 ZB (out), 8 GND (power) hidden to GND, 9 AB (in), 10 BB (in), 11 CB (in), 12 DB (in), 13 EB (in), 14 DIS (in), 15 ZA (out), 16 VCC (power) hidden to VCC

## 4508
designator U?
footprint DIP-24
part A pins: 1 MR (in), 2 ST (in), 3 DIS (in), 4 D0 (in), 5 Q0 (out), 6 D1 (in), 7 Q1 (out), 8 D2 (in), 9 Q2 (out), 10 D3 (in), 11 Q3 (out), 12 GND (power) hidden to GND, 24 VCC (power) hidden to VCC
part B pins: 12 GND (power) hidden to GND, 13 MR (in), 14 ST (in), 15 DIS (in), 16 D0 (in), 17 Q0 (out), 18 D1 (in), 19 Q1 (out), 20 D2 (in), 21 Q2 (out), 22 D3 (in), 23 Q3 (out), 24 VCC (power) hidden to VCC

## 4510
designator U?
footprint DIP-16
pins: 1 PE (in), 2 Q3 (out), 3 P3 (in), 4 P0 (in), 5 ~{CI} (in), 6 Q0 (out), 7 ~{CO} (out), 8 GND (power) hidden to GND, 9 RST (in), 10 U/~{D} (in), 11 Q1 (out), 12 P1 (in), 13 P2 (in), 14 Q2 (out), 15 CLK (in), 16 VCC (power) hidden to VCC

## 4511
designator U?
footprint DIP-16
pins: 1 B (in), 2 C (in), 3 ~{LT} (in), 4 ~{BI} (in), 5 LE (in), 6 D (in), 7 A (in), 8 GND (power) hidden to GND, 9 E (out), 10 D (out), 11 C (out), 12 B (out), 13 A (out), 14 G (out), 15 F (out), 16 VCC (power) hidden to VCC

## 4512
designator U?
footprint DIP-16
pins: 1 X0 (in), 2 X1 (in), 3 X2 (in), 4 X3 (in), 5 X4 (in), 6 X5 (in), 7 X6 (in), 8 GND (power) hidden to GND, 9 X7 (in), 10 INH (in), 11 A (in), 12 B (in), 13 C (in), 14 Z (out), 15 DIS (in), 16 VCC (power) hidden to VCC

## 4513
designator U?
footprint DIP-18
pins: 1 B (in), 2 C (in), 3 ~{LT} (in), 4 ~{BI} (in), 5 LE (in), 6 D (in), 7 A (in), 8 RBI (in), 9 GND (power) hidden to GND, 10 RBO (out), 11 E (out), 12 D (out), 13 C (out), 14 B (out), 15 A (out), 16 G (out), 17 F (out), 18 VCC (power) hidden to VCC

## 4514
designator U?
footprint DIP-24
pins: 1 STR (in), 2 D1 (in), 3 D2 (in), 4 S7 (out), 5 S6 (out), 6 S5 (out), 7 S4 (out), 8 S3 (out), 9 S1 (out), 10 S2 (out), 11 S0 (out), 12 GND (power) hidden to GND, 13 S13 (out), 14 S12 (out), 15 S15 (out), 16 S14 (out), 17 S9 (out), 18 S8 (out), 19 S11 (out), 20 S10 (out), 21 D3 (in), 22 D4 (in), 23 INH (in), 24 VCC (power) hidden to VCC

## 4515
designator U?
footprint DIP-24
pins: 1 STR (in), 2 D1 (in), 3 D2 (in), 4 S7 (out), 5 S6 (out), 6 S5 (out), 7 S4 (out), 8 S3 (out), 9 S1 (out), 10 S2 (out), 11 S0 (out), 12 GND (power) hidden to GND, 13 S13 (out), 14 S12 (out), 15 S15 (out), 16 S14 (out), 17 S9 (out), 18 S8 (out), 19 S11 (out), 20 S10 (out), 21 D3 (in), 22 D4 (in), 23 INH (in), 24 VCC (power) hidden to VCC

## 4516
designator U?
footprint DIP-16
pins: 1 PE (in), 2 Q3 (out), 3 P3 (in), 4 P0 (in), 5 ~{CIN} (in), 6 Q0 (out), 7 ~{COUT} (out), 8 GND (power) hidden to GND, 9 RST (in), 10 U/~{D} (in), 11 Q1 (out), 12 P1 (in), 13 P2 (in), 14 Q2 (out), 15 CLK (in), 16 VCC (power) hidden to VCC

## 4517
designator U?
footprint DIP-16
part A pins: 1 Q16 (out), 2 Q48 (out), 3 WE (in), 4 CLK (in), 5 Q64 (out), 6 Q32 (out), 7 D (in), 8 GND (power) hidden to GND, 16 VCC (power) hidden to VCC
part B pins: 8 GND (power) hidden to GND, 9 D (in), 10 Q32 (out), 11 Q64 (out), 12 CLK (in), 13 WE (in), 14 Q48 (out), 15 Q16 (out), 16 VCC (power) hidden to VCC

## 4518
designator U?
footprint DIP-16
part A pins: 1 CLK (in), 2 EN (in), 3 Q0 (out), 4 Q1 (out), 5 Q2 (out), 6 Q3 (out), 7 R (in), 8 GND (power) hidden to GND, 16 VCC (power) hidden to VCC
part B pins: 8 GND (power) hidden to GND, 9 CLK (in), 10 EN (in), 11 Q0 (out), 12 Q1 (out), 13 Q2 (out), 14 Q3 (out), 15 R (in), 16 VCC (power) hidden to VCC

## 4519
designator U?
footprint DIP-16
pins: 1 Y3 (in), 2 X2 (in), 3 Y2 (in), 4 X1 (in), 5 Y1 (in), 6 X0 (in), 7 Y0 (in), 8 GND (power) hidden to GND, 9 A (in), 10 Z0 (out), 11 Z1 (out), 12 Z2 (out), 13 Z3 (out), 14 B (in), 15 X3 (in), 16 VCC (power) hidden to VCC

## 4521
designator U?
footprint DIP-16
pins: 1 Q24 (out), 2 RST (in), 3 VSS1 (power), 4 OT2 (out), 5 VDD1 (power), 6 IN2 (in), 7 OT1 (out), 8 GND (power) hidden to GND, 9 IN1 (in), 10 Q18 (out), 11 Q19 (out), 12 Q20 (out), 13 Q21 (out), 14 Q22 (out), 15 Q23 (out), 16 VCC (power) hidden to VCC

## 4522
designator U?
footprint DIP-16
pins: 1 Q3 (out), 2 P3 (in), 3 PE (in), 4 INH (in), 5 P0 (in), 6 CLK (in), 7 Q0 (out), 8 GND (power) hidden to GND, 9 Q1 (out), 10 MR (in), 11 P1 (in), 12 "0" (out), 13 CF (in), 14 P2 (in), 15 Q2 (out), 16 VCC (power) hidden to VCC

## 4527
designator U?
footprint DIP-16
pins: 1 "9" (out), 2 C (in), 3 D (in), 4 S (in), 5 ~{OUT} (out), 6 OUT (out), 7 EO (out), 8 GND (power) hidden to GND, 9 CLK (in), 10 ST (in), 11 ~{EIN} (in), 12 CAS (in), 13 CL (in), 14 A (in), 15 B (in), 16 VCC (power) hidden to VCC

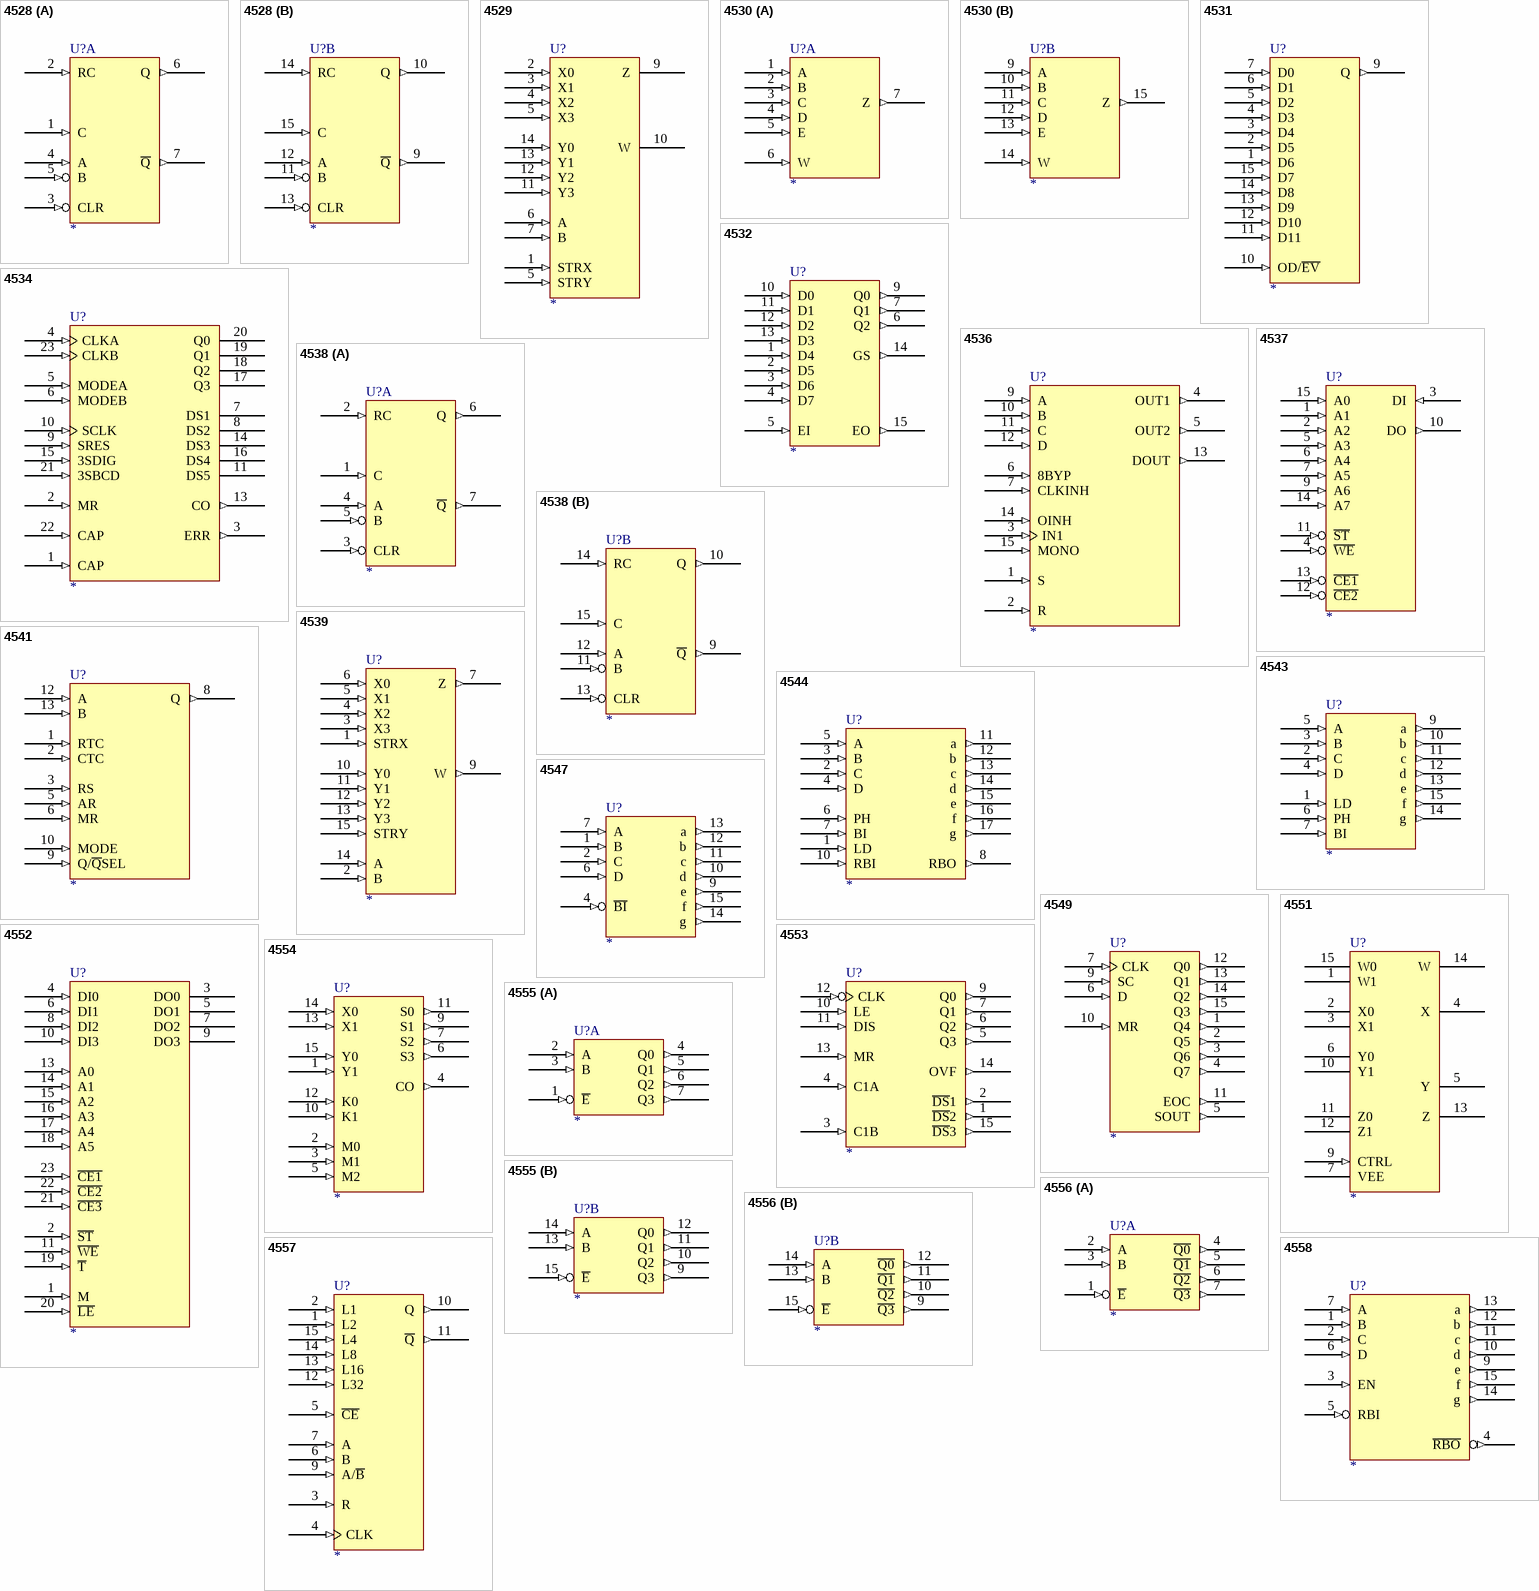
[diagram p4: symbols 4528 to 4558]

## 4528
designator U?
footprint DIP-16
part A pins: 1 C (in), 2 RC (in), 3 CLR (in), 4 A (in), 5 B (in), 6 Q (out), 7 ~{Q} (out), 8 GND (power) hidden to GND, 16 VCC (power) hidden to VCC
part B pins: 8 GND (power) hidden to GND, 9 ~{Q} (out), 10 Q (out), 11 B (in), 12 A (in), 13 CLR (in), 14 RC (in), 15 C (in), 16 VCC (power) hidden to VCC

## 4529
designator U?
footprint DIP-16
pins: 1 STRX (in), 2 X0 (in), 3 X1 (in), 4 X2 (in), 5 X3 (in), 5 STRY (in), 6 A (in), 7 B (in), 8 GND (power) hidden to GND, 9 Z, 10 W, 11 Y3 (in), 12 Y2 (in), 13 Y1 (in), 14 Y0 (in), 16 VCC (power) hidden to VCC

## 4530
designator U?
footprint DIP-16
part A pins: 1 A (in), 2 B (in), 3 C (in), 4 D (in), 5 E (in), 6 W (in), 7 Z (out), 8 GND (power) hidden to GND, 16 VCC (power) hidden to VCC
part B pins: 8 GND (power) hidden to GND, 9 A (in), 10 B (in), 11 C (in), 12 D (in), 13 E (in), 14 W (in), 15 Z (out), 16 VCC (power) hidden to VCC

## 4531
designator U?
footprint DIP-16
pins: 1 D6 (in), 2 D5 (in), 3 D4 (in), 4 D3 (in), 5 D2 (in), 6 D1 (in), 7 D0 (in), 8 GND (power) hidden to GND, 9 Q (out), 10 OD/~{EV} (in), 11 D11 (in), 12 D10 (in), 13 D9 (in), 14 D8 (in), 15 D7 (in), 16 VCC (power) hidden to VCC

## 4532
designator U?
footprint DIP-16
pins: 1 D4 (in), 2 D5 (in), 3 D6 (in), 4 D7 (in), 5 EI (in), 6 Q2 (out), 7 Q1 (out), 8 GND (power) hidden to GND, 9 Q0 (out), 10 D0 (in), 11 D1 (in), 12 D2 (in), 13 D3 (in), 14 GS (out), 15 EO (out), 16 VCC (power) hidden to VCC

## 4534
designator U?
footprint DIP-24
pins: 1 CAP (in), 2 MR (in), 3 ERR (out), 4 CLKA (in), 5 MODEA (in), 6 MODEB (in), 7 DS1 (hiz), 8 DS2 (hiz), 9 SRES (in), 10 SCLK (in), 11 DS5 (hiz), 12 GND (power) hidden to GND, 13 CO (out), 14 DS3 (hiz), 15 3SDIG (in), 16 DS4 (hiz), 17 Q3 (hiz), 18 Q2 (hiz), 19 Q1 (hiz), 20 Q0 (hiz), 21 3SBCD (in), 22 CAP (in), 23 CLKB (in), 24 VCC (power) hidden to VCC

## 4536
designator U?
footprint DIP-16
pins: 1 S (in), 2 R (in), 3 IN1 (in), 4 OUT1 (out), 5 OUT2 (out), 6 8BYP (in), 7 CLKINH (in), 8 GND (power) hidden to GND, 9 A (in), 10 B (in), 11 C (in), 12 D (in), 13 DOUT (out), 14 OINH (in), 15 MONO (in), 16 VCC (power) hidden to VCC

## 4537
designator U?
footprint DIP-16
pins: 1 A1 (in), 2 A2 (in), 3 DI (in), 4 ~{WE} (in), 5 A3 (in), 6 A4 (in), 7 A5 (in), 8 GND (power) hidden to GND, 9 A6 (in), 10 DO (out), 11 ~{ST} (in), 12 ~{CE2} (in), 13 ~{CE1} (in), 14 A7 (in), 15 A0 (in), 16 VCC (power) hidden to VCC

## 4538
designator U?
footprint DIP-16
part A pins: 1 C (in), 2 RC (in), 3 CLR (in), 4 A (in), 5 B (in), 6 Q (out), 7 ~{Q} (out), 8 GND (power) hidden to GND, 16 VCC (power) hidden to VCC
part B pins: 8 GND (power) hidden to GND, 9 ~{Q} (out), 10 Q (out), 11 B (in), 12 A (in), 13 CLR (in), 14 RC (in), 15 C (in), 16 VCC (power) hidden to VCC

## 4539
designator U?
footprint DIP-16
pins: 1 STRX (in), 2 B (in), 3 X3 (in), 4 X2 (in), 5 X1 (in), 6 X0 (in), 7 Z (out), 8 GND (power) hidden to GND, 9 W (out), 10 Y0 (in), 11 Y1 (in), 12 Y2 (in), 13 Y3 (in), 14 A (in), 15 STRY (in), 16 VCC (power) hidden to VCC

## 4541
designator U?
footprint DIP-14
pins: 1 RTC (in), 2 CTC (in), 3 RS (in), 5 AR (in), 6 MR (in), 7 GND (power) hidden to GND, 8 Q (out), 9 Q/~{Q}SEL (in), 10 MODE (in), 12 A (in), 13 B (in), 14 VCC (power) hidden to VCC

## 4543
designator U?
footprint DIP-16
pins: 1 LD (in), 2 C (in), 3 B (in), 4 D (in), 5 A (in), 6 PH (in), 7 BI (in), 8 GND (power) hidden to GND, 9 a (out), 10 b (out), 11 c (out), 12 d (out), 13 e (out), 14 g (out), 15 f (out), 16 VCC (power) hidden to VCC

## 4544
designator U?
footprint DIP-18
pins: 1 LD (in), 2 C (in), 3 B (in), 4 D (in), 5 A (in), 6 PH (in), 7 BI (in), 8 RBO (out), 9 GND (power) hidden to GND, 10 RBI (in), 11 a (out), 12 b (out), 13 c (out), 14 d (out), 15 e (out), 16 f (out), 17 g (out), 18 VCC (power) hidden to VCC

## 4547
designator U?
footprint DIP-16
pins: 1 B (in), 2 C (in), 4 ~{BI} (in), 6 D (in), 7 A (in), 8 GND (power) hidden to GND, 9 e (out), 10 d (out), 11 c (out), 12 b (out), 13 a (out), 14 g (out), 15 f (out), 16 VCC (power) hidden to VCC

## 4549
designator U?
footprint DIP-16
pins: 1 Q4 (out), 2 Q5 (out), 3 Q6 (out), 4 Q7 (out), 5 SOUT (out), 6 D (in), 7 CLK (in), 8 GND (power) hidden to GND, 9 SC (in), 10 MR (in), 11 EOC (out), 12 Q0 (out), 13 Q1 (out), 14 Q2 (out), 15 Q3 (out), 16 VCC (power) hidden to VCC

## 4551
designator U?
footprint DIP-16
pins: 1 W1, 2 X0, 3 X1, 4 X, 5 Y, 6 Y0, 7 VEE, 8 GND (power) hidden to GND, 9 CTRL (in), 10 Y1, 11 Z0, 12 Z1, 13 Z, 14 W, 15 W0, 16 VCC (power) hidden to VCC

## 4552
designator U?
footprint DIP-24
pins: 1 M (in), 2 ~{ST} (in), 3 DO0 (hiz), 4 DI0 (in), 5 DO1 (hiz), 6 DI1 (in), 7 DO2 (hiz), 8 DI2 (in), 9 DO3 (hiz), 10 DI3 (in), 11 ~{WE} (in), 12 GND (power) hidden to GND, 13 A0 (in), 14 A1 (in), 15 A2 (in), 16 A3 (in), 17 A4 (in), 18 A5 (in), 19 ~{T} (in), 20 ~{LE} (in), 21 ~{CE3} (in), 22 ~{CE2} (in), 23 ~{CE1} (in), 24 VCC (power) hidden to VCC

## 4553
designator U?
footprint DIP-16
pins: 1 ~{DS}2 (out), 2 ~{DS}1 (out), 3 C1B (in), 4 C1A (in), 5 Q3 (out), 6 Q2 (out), 7 Q1 (out), 8 GND (power) hidden to GND, 9 Q0 (out), 10 LE (in), 11 DIS (in), 12 CLK (in), 13 MR (in), 14 OVF (out), 15 ~{DS}3 (out), 16 VCC (power) hidden to VCC

## 4554
designator U?
footprint DIP-16
pins: 1 Y1 (in), 2 M0 (in), 3 M1 (in), 4 CO (out), 5 M2 (in), 6 S3 (out), 7 S2 (out), 8 GND (power) hidden to GND, 9 S1 (out), 10 K1 (in), 11 S0 (out), 12 K0 (in), 13 X1 (in), 14 X0 (in), 15 Y0 (in), 16 VCC (power) hidden to VCC

## 4555
designator U?
footprint DIP-16
part A pins: 1 ~{E} (in), 2 A (in), 3 B (in), 4 Q0 (out), 5 Q1 (out), 6 Q2 (out), 7 Q3 (out), 8 GND (power) hidden to GND, 16 VCC (power) hidden to VCC
part B pins: 8 GND (power) hidden to GND, 9 Q3 (out), 10 Q2 (out), 11 Q1 (out), 12 Q0 (out), 13 B (in), 14 A (in), 15 ~{E} (in), 16 VCC (power) hidden to VCC

## 4556
designator U?
footprint DIP-16
part A pins: 1 ~{E} (in), 2 A (in), 3 B (in), 4 ~{Q0} (out), 5 ~{Q1} (out), 6 ~{Q2} (out), 7 ~{Q3} (out), 8 GND (power) hidden to GND, 16 VCC (power) hidden to VCC
part B pins: 8 GND (power) hidden to GND, 9 ~{Q3} (out), 10 ~{Q2} (out), 11 ~{Q1} (out), 12 ~{Q0} (out), 13 B (in), 14 A (in), 15 ~{E} (in), 16 VCC (power) hidden to VCC

## 4557
designator U?
footprint DIP-16
pins: 1 L2 (in), 2 L1 (in), 3 R (in), 4 CLK (in), 5 ~{CE} (in), 6 B (in), 7 A (in), 8 GND (power) hidden to GND, 9 A/~{B} (in), 10 Q (out), 11 ~{Q} (out), 12 L32 (in), 13 L16 (in), 14 L8 (in), 15 L4 (in), 16 VCC (power) hidden to VCC

## 4558
designator U?
footprint DIP-16
pins: 1 B (in), 2 C (in), 3 EN (in), 4 ~{RBO} (out), 5 RBI (in), 6 D (in), 7 A (in), 8 GND (power) hidden to GND, 9 e (out), 10 d (out), 11 c (out), 12 b (out), 13 a (out), 14 g (out), 15 f (out), 16 VCC (power) hidden to VCC

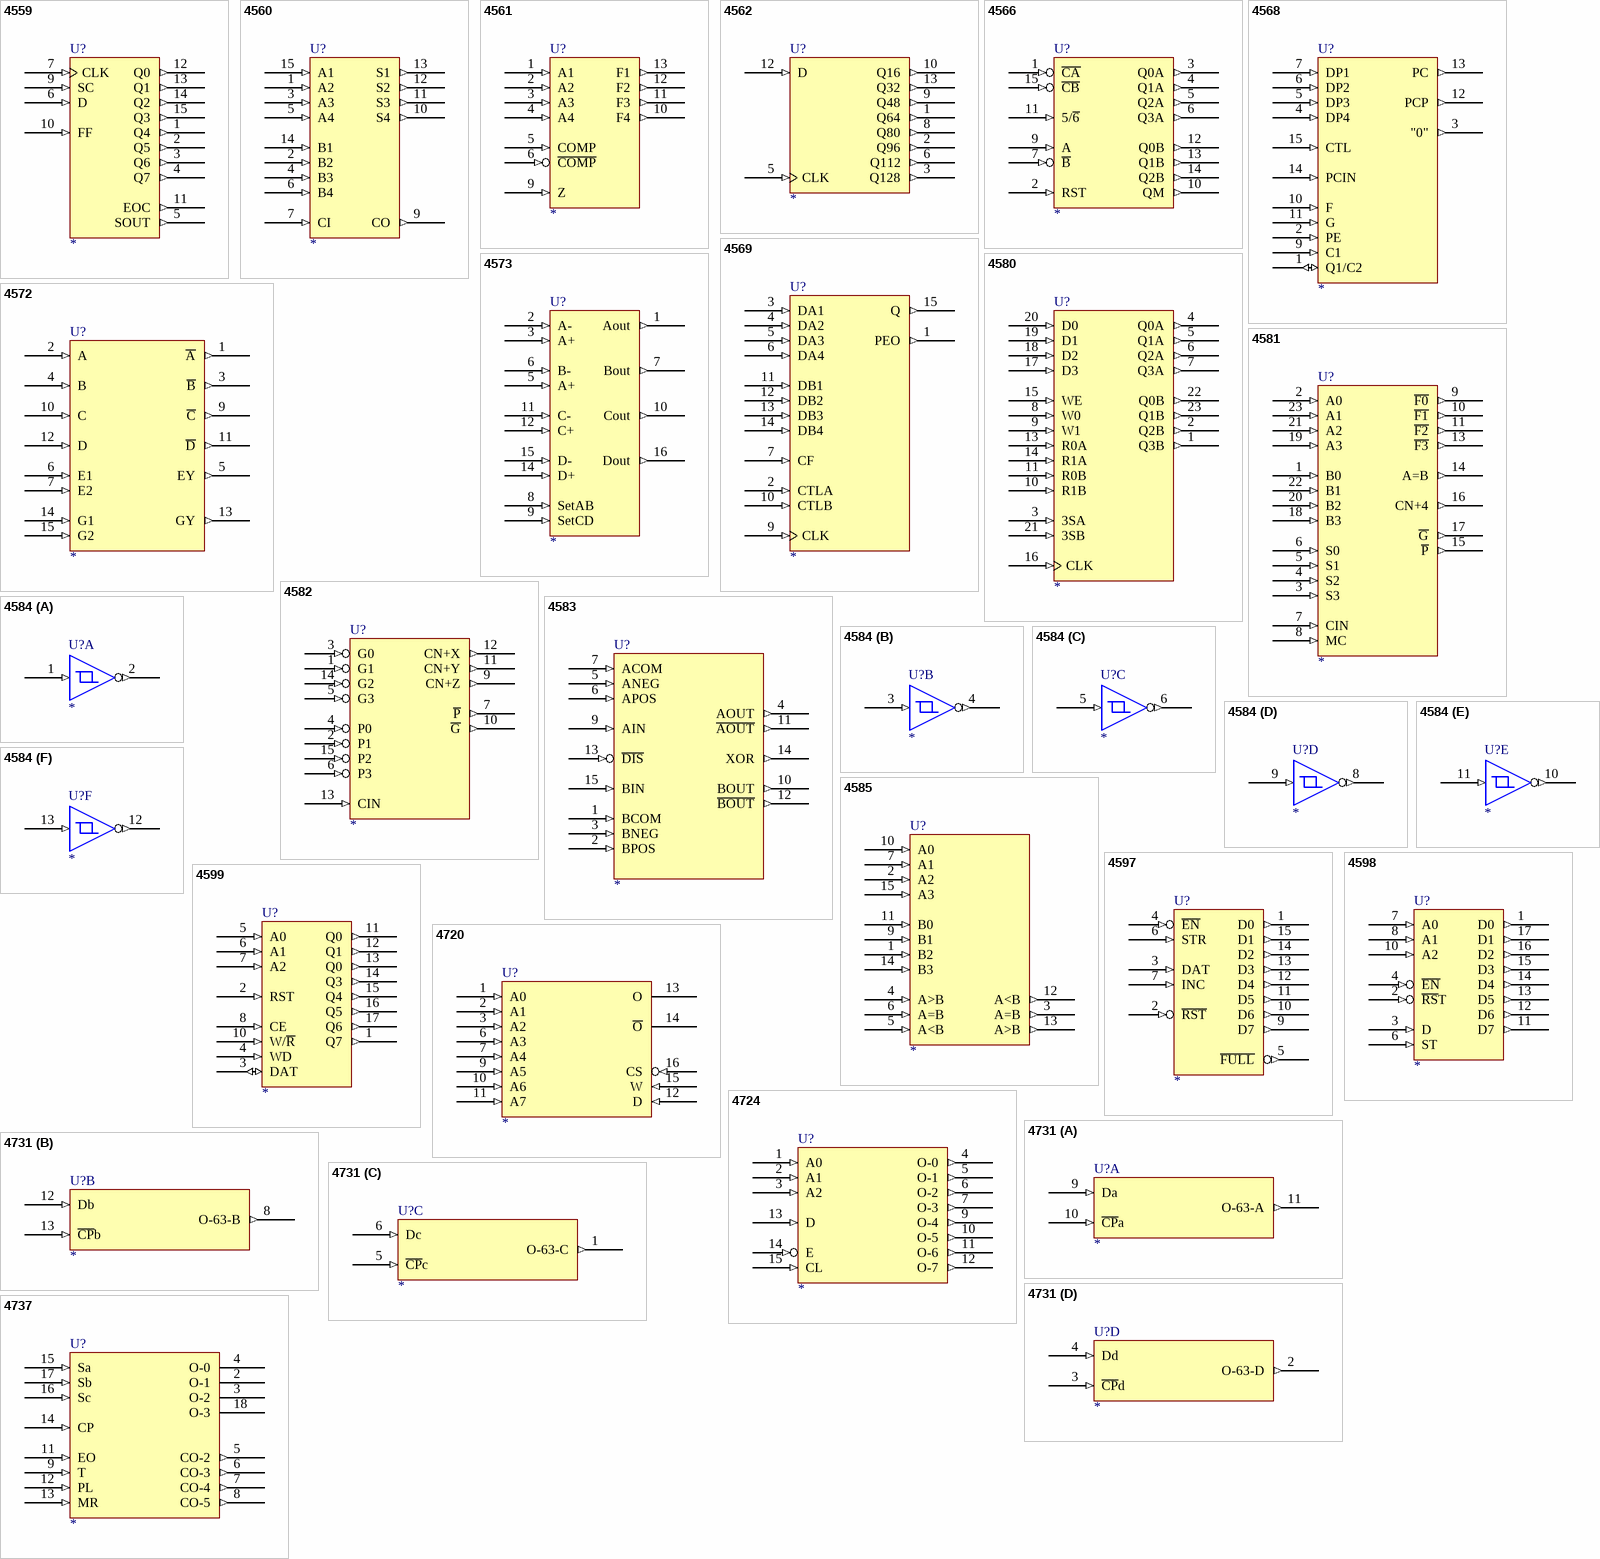
[diagram p5: symbols 4559 to 4737]

## 4559
designator U?
footprint DIP-16
pins: 1 Q4 (out), 2 Q5 (out), 3 Q6 (out), 4 Q7 (out), 5 SOUT (out), 6 D (in), 7 CLK (in), 8 GND (power) hidden to GND, 9 SC (in), 10 FF (in), 11 EOC (out), 12 Q0 (out), 13 Q1 (out), 14 Q2 (out), 15 Q3 (out), 16 VCC (power) hidden to VCC

## 4560
designator U?
footprint DIP-16
pins: 1 A2 (in), 2 B2 (in), 3 A3 (in), 4 B3 (in), 5 A4 (in), 6 B4 (in), 7 CI (in), 8 GND (power) hidden to GND, 9 CO (out), 10 S4 (out), 11 S3 (out), 12 S2 (out), 13 S1 (out), 14 B1 (in), 15 A1 (in), 16 VCC (power) hidden to VCC

## 4561
designator U?
footprint DIP-14
pins: 1 A1 (in), 2 A2 (in), 3 A3 (in), 4 A4 (in), 5 COMP (in), 6 ~{COMP} (in), 7 GND (power) hidden to GND, 9 Z (in), 10 F4 (out), 11 F3 (out), 12 F2 (out), 13 F1 (out), 14 VCC (power) hidden to VCC

## 4562
designator U?
footprint DIP-14
pins: 1 Q64 (out), 2 Q96 (out), 3 Q128 (out), 5 CLK (in), 6 Q112 (out), 7 GND (power) hidden to GND, 8 Q80 (out), 9 Q48 (out), 10 Q16 (out), 12 D (in), 13 Q32 (out), 14 VCC (power) hidden to VCC

## 4566
designator U?
footprint DIP-16
pins: 1 ~{CA} (in), 2 RST (in), 3 Q0A (out), 4 Q1A (out), 5 Q2A (out), 6 Q3A (out), 7 ~{B} (in), 8 GND (power) hidden to GND, 9 A (in), 10 QM (out), 11 5/~{6} (in), 12 Q0B (out), 13 Q1B (out), 14 Q2B (out), 15 ~{CB} (in), 16 VCC (power) hidden to VCC

## 4568
designator U?
footprint DIP-16
pins: 1 Q1/C2 (io), 2 PE (in), 3 "0" (out), 4 DP4 (in), 5 DP3 (in), 6 DP2 (in), 7 DP1 (in), 8 GND (power) hidden to GND, 9 C1 (in), 10 F (in), 11 G (in), 12 PCP (out), 13 PC (out), 14 PCIN (in), 15 CTL (in), 16 VCC (power) hidden to VCC

## 4569
designator U?
footprint DIP-16
pins: 1 PEO (out), 2 CTLA (in), 3 DA1 (in), 4 DA2 (in), 5 DA3 (in), 6 DA4 (in), 7 CF (in), 8 GND (power) hidden to GND, 9 CLK (in), 10 CTLB (in), 11 DB1 (in), 12 DB2 (in), 13 DB3 (in), 14 DB4 (in), 15 Q (out), 16 VCC (power) hidden to VCC

## 4572
designator U?
footprint DIP-16
pins: 1 ~{A} (out), 2 A (in), 3 ~{B} (out), 4 B (in), 5 EY (out), 6 E1 (in), 7 E2 (in), 8 GND (power) hidden to GND, 9 ~{C} (out), 10 C (in), 11 ~{D} (out), 12 D (in), 13 GY (out), 14 G1 (in), 15 G2 (in), 16 VCC (power) hidden to VCC

## 4573
designator U?
footprint DIP-16
pins: 1 Aout (out), 2 A- (in), 3 A+ (in), 4 VCC (power) hidden to VCC, 5 A+ (in), 6 B- (in), 7 Bout (out), 8 SetAB (in), 9 SetCD (in), 10 Cout (out), 11 C- (in), 12 C+ (in), 13 GND (power) hidden to GND, 14 D+ (in), 15 D- (in), 16 Dout (out)

## 4580
designator U?
footprint DIP-24
pins: 1 Q3B (out), 2 Q2B (out), 3 3SA (in), 4 Q0A (out), 5 Q1A (out), 6 Q2A (out), 7 Q3A (out), 8 W0 (in), 9 W1 (in), 10 R1B (in), 11 R0B (in), 12 GND (power) hidden to GND, 13 R0A (in), 14 R1A (in), 15 WE (in), 16 CLK (in), 17 D3 (in), 18 D2 (in), 19 D1 (in), 20 D0 (in), 21 3SB (in), 22 Q0B (out), 23 Q1B (out), 24 VCC (power) hidden to VCC

## 4581
designator U?
footprint DIP-24
pins: 1 B0 (in), 2 A0 (in), 3 S3 (in), 4 S2 (in), 5 S1 (in), 6 S0 (in), 7 CIN (in), 8 MC (in), 9 ~{F0} (out), 10 ~{F1} (out), 11 ~{F2} (out), 12 GND (power) hidden to GND, 13 ~{F3} (out), 14 A=B (out), 15 ~{P} (out), 16 CN+4 (out), 17 ~{G} (out), 18 B3 (in), 19 A3 (in), 20 B2 (in), 21 A2 (in), 22 B1 (in), 23 A1 (in), 24 VCC (power) hidden to VCC

## 4582
designator U?
footprint DIP-16
pins: 1 G1 (in), 2 P1 (in), 3 G0 (in), 4 P0 (in), 5 G3 (in), 6 P3 (in), 7 ~{P} (out), 8 GND (power) hidden to GND, 9 CN+Z (out), 10 ~{G} (out), 11 CN+Y (out), 12 CN+X (out), 13 CIN (in), 14 G2 (in), 15 P2 (in), 16 VCC (power) hidden to VCC

## 4583
designator U?
footprint DIP-16
pins: 1 BCOM (in), 2 BPOS (in), 3 BNEG (in), 4 AOUT (out), 5 ANEG (in), 6 APOS (in), 7 ACOM (in), 8 GND (power) hidden to GND, 9 AIN (in), 10 BOUT (out), 11 ~{AOUT} (out), 12 ~{BOUT} (out), 13 ~{DIS} (in), 14 XOR (out), 15 BIN (in), 16 VCC (power) hidden to VCC

## 4584
designator U?
footprint DIP-14
part A pins: 1 (in), 2 (out), 7 GND (power) hidden to GND, 14 VCC (power) hidden to VCC
part B pins: 3 (in), 4 (out), 7 GND (power) hidden to GND, 14 VCC (power) hidden to VCC
part C pins: 5 (in), 6 (out), 7 GND (power) hidden to GND, 14 VCC (power) hidden to VCC
part D pins: 7 GND (power) hidden to GND, 8 (out), 9 (in), 14 VCC (power) hidden to VCC
part E pins: 7 GND (power) hidden to GND, 10 (out), 11 (in), 14 VCC (power) hidden to VCC
part F pins: 7 GND (power) hidden to GND, 12 (out), 13 (in), 14 VCC (power) hidden to VCC

## 4585
designator U?
footprint DIP-16
pins: 1 B2 (in), 2 A2 (in), 3 A=B (out), 4 A>B (in), 5 A<B (in), 6 A=B (in), 7 A1 (in), 8 GND (power) hidden to GND, 9 B1 (in), 10 A0 (in), 11 B0 (in), 12 A<B (out), 13 A>B (out), 14 B3 (in), 15 A3 (in), 16 VCC (power) hidden to VCC

## 4597
designator U?
footprint DIP-16
pins: 1 D0 (out), 2 ~{RST} (in), 3 DAT (in), 4 ~{EN} (in), 5 ~{FULL} (out), 6 STR (in), 7 INC (in), 8 GND (power) hidden to GND, 9 D7 (out), 10 D6 (out), 11 D5 (out), 12 D4 (out), 13 D3 (out), 14 D2 (out), 15 D1 (out), 16 VCC (power) hidden to VCC

## 4598
designator U?
footprint DIP-16
pins: 1 D0 (out), 2 ~{RS}T (in), 3 D (in), 4 ~{EN} (in), 6 ST (in), 7 A0 (in), 8 A1 (in), 8 GND (power) hidden to GND, 10 A2 (in), 11 D7 (out), 12 D6 (out), 13 D5 (out), 14 D4 (out), 15 D3 (out), 16 D2 (out), 16 VCC (power) hidden to VCC, 17 D1 (out)

## 4599
designator U?
footprint DIP-18
pins: 1 Q7 (out), 2 RST (in), 3 DAT (io), 4 WD (in), 5 A0 (in), 6 A1 (in), 7 A2 (in), 8 CE (in), 9 GND (power) hidden to GND, 10 W/~{R} (in), 11 Q0 (out), 12 Q1 (out), 13 Q0 (out), 14 Q3 (out), 15 Q4 (out), 16 Q5 (out), 17 Q6 (out), 18 VCC (power) hidden to VCC

## 4720
designator U?
footprint DIP-16
pins: 1 A0 (in), 2 A1 (in), 3 A2 (in), 5 VCC (power) hidden to VCC, 6 A3 (in), 7 A4 (in), 8 GND (power) hidden to GND, 9 A5 (in), 10 A6 (in), 11 A7 (in), 12 D (in), 13 O (hiz), 14 ~{O} (hiz), 15 W (in), 16 CS (in)

## 4724
designator U?
footprint DIP-16
pins: 1 A0 (in), 2 A1 (in), 3 A2 (in), 4 O-0 (out), 5 O-1 (out), 6 O-2 (out), 7 O-3 (out), 8 GND (power) hidden to GND, 9 O-4 (out), 10 O-5 (out), 11 O-6 (out), 12 O-7 (out), 13 D (in), 14 E (in), 15 CL (in), 16 VCC (power) hidden to VCC

## 4731
designator U?
footprint DIP-14
part A pins: 7 GND (power) hidden to GND, 9 Da (in), 10 ~{CP}a (in), 11 O-63-A (out), 14 VCC (power) hidden to VCC
part B pins: 7 GND (power) hidden to GND, 8 O-63-B (out), 12 Db (in), 13 ~{CP}b (in), 14 VCC (power) hidden to VCC
part C pins: 1 O-63-C (out), 5 ~{CP}c (in), 6 Dc (in), 7 GND (power) hidden to GND, 14 VCC (power) hidden to VCC
part D pins: 2 O-63-D (out), 3 ~{CP}d (in), 4 Dd (in), 7 GND (power) hidden to GND, 14 VCC (power) hidden to VCC

## 4737
designator U?
footprint DIP-18
pins: 1 GND (power) hidden to GND, 2 O-1 (hiz), 3 O-2 (hiz), 4 O-0 (hiz), 5 CO-2 (out), 6 CO-3 (out), 7 CO-4 (out), 8 CO-5 (out), 9 T (in), 10 VCC (power) hidden to VCC, 11 EO (in), 12 PL (in), 13 MR (in), 14 CP (in), 15 Sa (in), 16 Sc (in), 17 Sb (in), 18 O-3 (hiz)

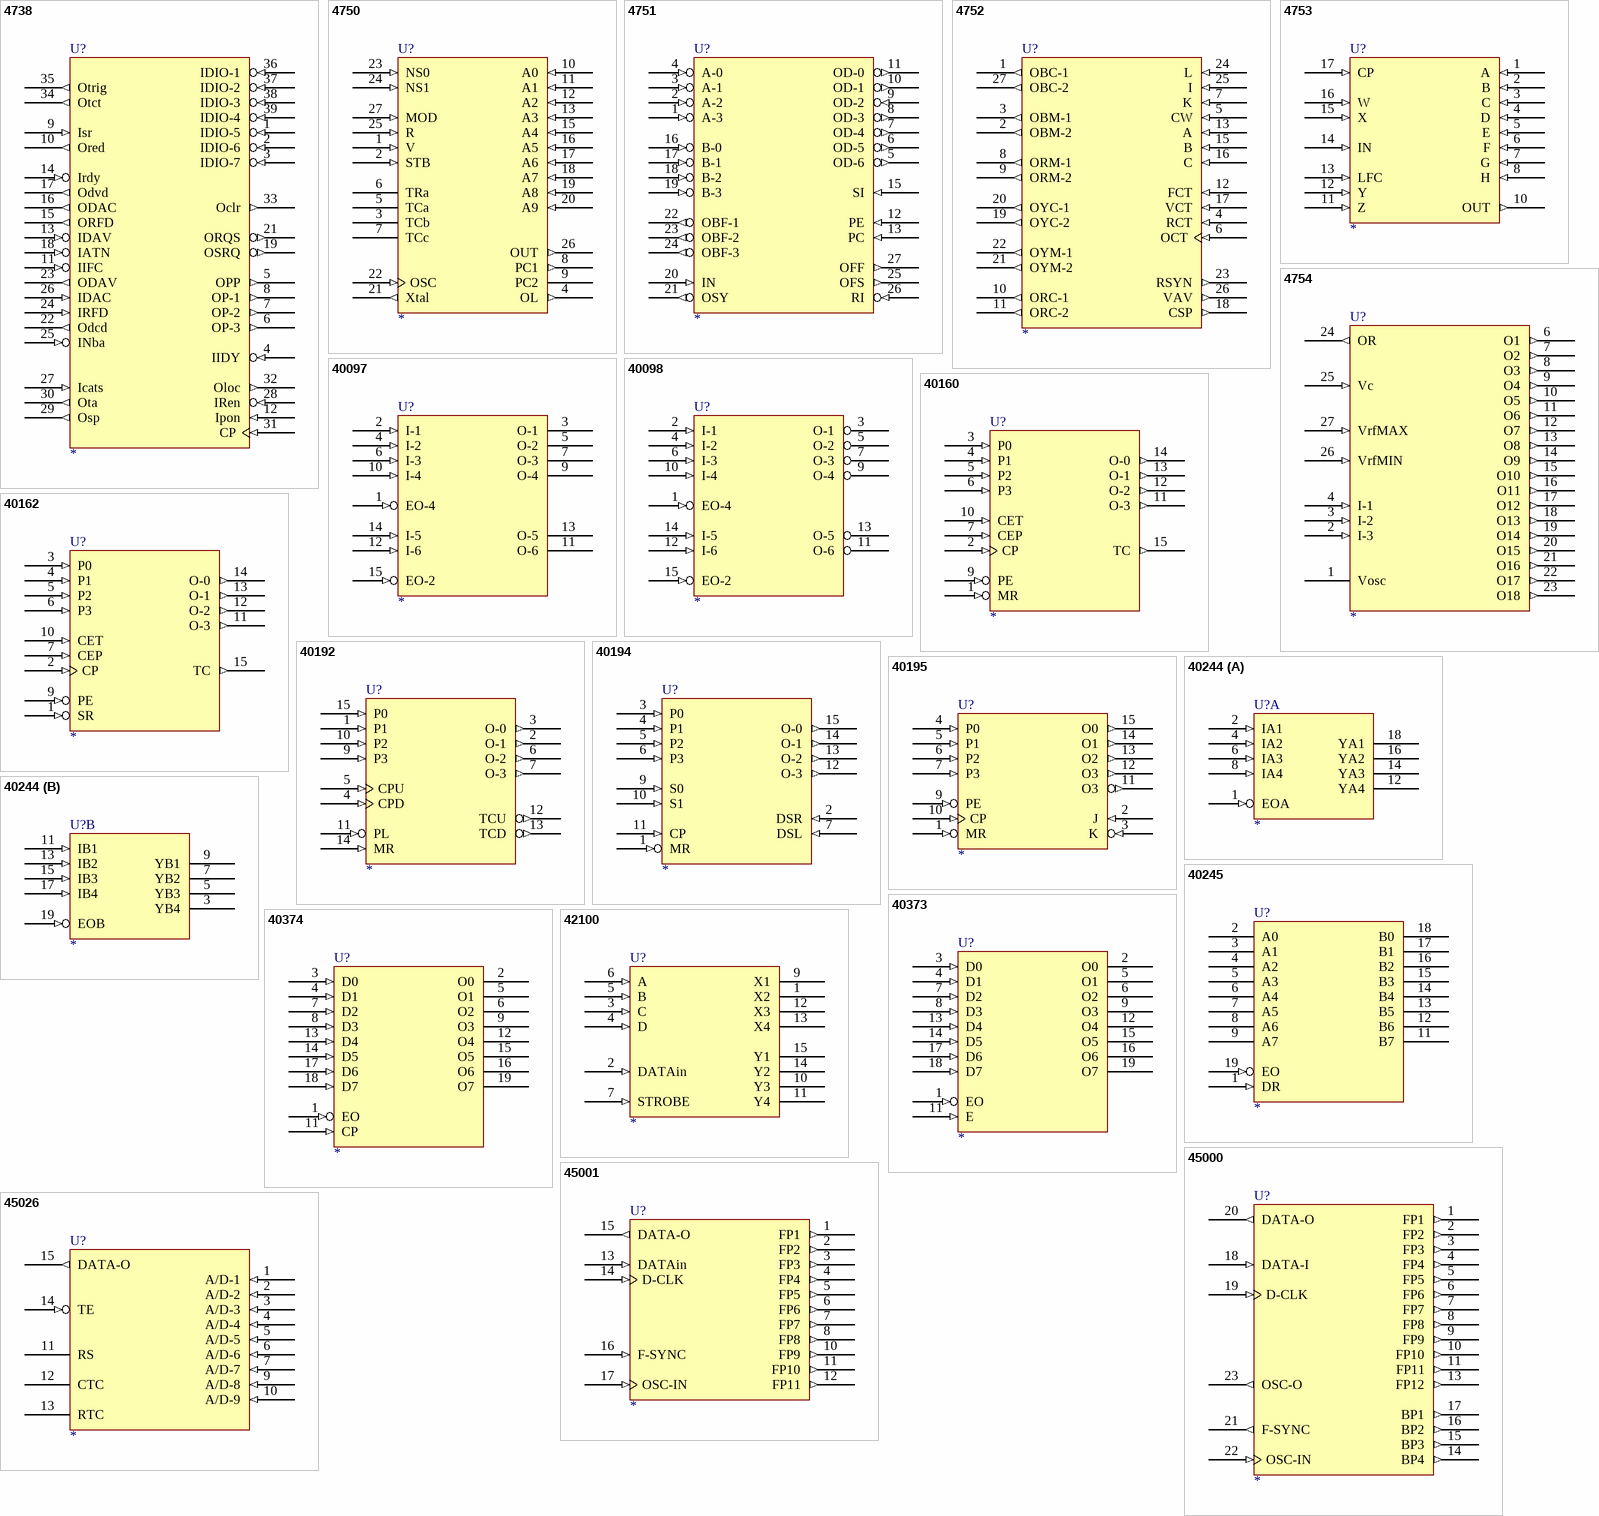
[diagram p6: symbols 4738 to 45026]

## 4738
designator U?
footprint DIP-40
pins: 1 IDIO-5 (in), 2 IDIO-6 (in), 3 IDIO-7 (in), 4 IIDY (in), 5 OPP (out), 6 OP-3 (out), 7 OP-2 (out), 8 OP-1 (out), 9 Isr (in), 10 Ored (out), 11 IIFC (in), 12 Ipon (in), 13 IDAV (in), 14 Irdy (in), 15 ORFD (out), 16 ODAC (out), 17 Odvd (out), 18 IATN (in), 19 OSRQ (out), 20 GND (power) hidden to GND, 21 ORQS (out), 22 Odcd (out), 23 ODAV (out), 24 IRFD (in), 25 INba (in), 26 IDAC (in), 27 Icats (in), 28 IRen (in), 29 Osp (out), 30 Ota (out), 31 CP (in), 32 Oloc (out), 33 Oclr (out), 34 Otct (out), 35 Otrig (out), 36 IDIO-1 (in), 37 IDIO-2 (in), 38 IDIO-3 (in), 39 IDIO-4 (in), 40 VCC (power) hidden to VCC

## 4750
designator U?
footprint DIP-28
pins: 1 V (in), 2 STB (in), 3 TCb, 4 OL (out), 5 TCa, 6 TRa, 7 TCc, 8 PC1 (out), 9 PC2 (hiz), 10 A0 (in), 11 A1 (in), 12 A2 (in), 13 A3 (in), 14 GND (power) hidden to GND, 15 A4 (in), 16 A5 (in), 17 A6 (in), 18 A7 (in), 19 A8 (in), 20 A9 (in), 21 Xtal (out), 22 OSC (in), 23 NS0 (in), 24 NS1 (in), 25 R (in), 26 OUT (out), 27 MOD (in), 28 VCC (power) hidden to VCC

## 4751
designator U?
footprint DIP-28
pins: 1 A-3 (in), 2 A-2 (in), 3 A-1 (in), 4 A-0 (in), 5 OD-6 (out), 6 OD-5 (out), 7 OD-4 (out), 8 OD-3 (out), 9 OD-2 (in), 10 OD-1 (out), 11 OD-0 (out), 12 PE (in), 13 PC (in), 14 GND (power) hidden to GND, 15 SI (in), 16 B-0 (in), 17 B-1 (in), 18 B-2 (in), 19 B-3 (in), 20 IN (in), 21 OSY (out), 22 OBF-1 (out), 23 OBF-2 (out), 24 OBF-3 (out), 25 OFS (out), 26 RI (in), 27 OFF (out), 28 VCC (power) hidden to VCC

## 4752
designator U?
footprint DIP-28
pins: 1 OBC-1 (out), 2 OBM-2 (out), 3 OBM-1 (out), 4 RCT (in), 5 CW (in), 6 OCT (in), 7 K (in), 8 ORM-1 (out), 9 ORM-2 (out), 10 ORC-1 (out), 11 ORC-2 (out), 12 FCT (in), 13 A (in), 14 GND (power) hidden to GND, 15 B (in), 16 C (in), 17 VCT (in), 18 CSP (out), 19 OYC-2 (out), 20 OYC-1 (out), 21 OYM-2 (out), 22 OYM-1 (out), 23 RSYN (out), 24 L (in), 25 I (in), 26 VAV (out), 27 OBC-2 (out), 28 VCC (power) hidden to VCC

## 4753
designator U?
footprint DIP-18
pins: 1 A (in), 2 B (in), 3 C (in), 4 D (in), 5 E (in), 6 F (in), 7 G (in), 8 H (in), 9 GND (power) hidden to GND, 10 OUT (out), 11 Z (in), 12 Y (in), 13 LFC (in), 14 IN (in), 15 X (in), 16 W (in), 17 CP (in), 18 VCC (power) hidden to VCC

## 4754
designator U?
footprint DIP-28
pins: 1 Vosc, 2 I-3 (in), 3 I-2 (in), 4 I-1 (in), 5 GND (power) hidden to GND, 6 O1 (out), 7 O2 (out), 8 O3 (out), 9 O4 (out), 10 O5 (out), 11 O6 (out), 12 O7 (out), 13 O8 (out), 14 O9 (out), 15 O10 (out), 16 O11 (out), 17 O12 (out), 18 O13 (out), 19 O14 (out), 20 O15 (out), 21 O16 (out), 22 O17 (out), 23 O18 (out), 24 OR (out), 25 Vc (in), 26 VrfMIN (in), 27 VrfMAX (in), 28 VCC (power) hidden to VCC

## 40097
designator U?
footprint DIP-16
pins: 1 EO-4 (in), 2 I-1 (in), 3 O-1 (hiz), 4 I-2 (in), 5 O-2 (hiz), 6 I-3 (in), 7 O-3 (hiz), 8 GND (power) hidden to GND, 9 O-4 (hiz), 10 I-4 (in), 11 O-6 (hiz), 12 I-6 (in), 13 O-5 (hiz), 14 I-5 (in), 15 EO-2 (in), 16 VCC (power) hidden to VCC

## 40098
designator U?
footprint DIP-16
pins: 1 EO-4 (in), 2 I-1 (in), 3 O-1 (hiz), 4 I-2 (in), 5 O-2 (hiz), 6 I-3 (in), 7 O-3 (hiz), 8 GND (power) hidden to GND, 9 O-4 (hiz), 10 I-4 (in), 11 O-6 (hiz), 12 I-6 (in), 13 O-5 (hiz), 14 I-5 (in), 15 EO-2 (in), 16 VCC (power) hidden to VCC

## 40160
designator U?
footprint DIP-16
pins: 1 MR (in), 2 CP (in), 3 P0 (in), 4 P1 (in), 5 P2 (in), 6 P3 (in), 7 CEP (in), 8 GND (power) hidden to GND, 9 PE (in), 10 CET (in), 11 O-3 (out), 12 O-2 (out), 13 O-1 (out), 14 O-0 (out), 15 TC (out), 16 VCC (power) hidden to VCC

## 40162
designator U?
footprint DIP-16
pins: 1 SR (in), 2 CP (in), 3 P0 (in), 4 P1 (in), 5 P2 (in), 6 P3 (in), 7 CEP (in), 8 GND (power) hidden to GND, 9 PE (in), 10 CET (in), 11 O-3 (out), 12 O-2 (out), 13 O-1 (out), 14 O-0 (out), 15 TC (out), 16 VCC (power) hidden to VCC

## 40192
designator U?
footprint DIP-16
pins: 1 P1 (in), 2 O-1 (out), 3 O-0 (out), 4 CPD (in), 5 CPU (in), 6 O-2 (out), 7 O-3 (out), 8 GND (power) hidden to GND, 9 P3 (in), 10 P2 (in), 11 PL (in), 12 TCU (out), 13 TCD (out), 14 MR (in), 15 P0 (in), 16 VCC (power) hidden to VCC

## 40194
designator U?
footprint DIP-16
pins: 1 MR (in), 2 DSR (in), 3 P0 (in), 4 P1 (in), 5 P2 (in), 6 P3 (in), 7 DSL (in), 8 GND (power) hidden to GND, 9 S0 (in), 10 S1 (in), 11 CP (in), 12 O-3 (out), 13 O-2 (out), 14 O-1 (out), 15 O-0 (out), 16 VCC (power) hidden to VCC

## 40195
designator U?
footprint DIP-16
pins: 1 MR (in), 2 J (in), 3 K (in), 4 P0 (in), 5 P1 (in), 6 P2 (in), 7 P3 (in), 8 GND (power) hidden to GND, 9 PE (in), 10 CP (in), 11 O3 (out), 12 O3 (out), 13 O2 (out), 14 O1 (out), 15 O0 (out), 16 VCC (power) hidden to VCC

## 40244
designator U?
footprint DIP-20
part A pins: 1 EOA (in), 2 IA1 (in), 4 IA2 (in), 6 IA3 (in), 8 IA4 (in), 10 GND (power) hidden to GND, 12 YA4 (hiz), 14 YA3 (hiz), 16 YA2 (hiz), 18 YA1 (hiz), 20 VCC (power) hidden to VCC
part B pins: 3 YB4 (hiz), 5 YB3 (hiz), 7 YB2 (hiz), 9 YB1 (hiz), 10 GND (power) hidden to GND, 11 IB1 (in), 13 IB2 (in), 15 IB3 (in), 17 IB4 (in), 19 EOB (in), 20 VCC (power) hidden to VCC

## 40245
designator U?
footprint DIP-20
pins: 1 DR (in), 2 A0 (hiz), 3 A1 (hiz), 4 A2 (hiz), 5 A3 (hiz), 6 A4 (hiz), 7 A5 (hiz), 8 A6 (hiz), 9 A7 (hiz), 10 GND (power) hidden to GND, 11 B7 (hiz), 12 B6 (hiz), 13 B5 (hiz), 14 B4 (hiz), 15 B3 (hiz), 16 B2 (hiz), 17 B1 (hiz), 18 B0 (hiz), 19 EO (in), 20 VCC (power) hidden to VCC

## 40373
designator U?
footprint DIP-20
pins: 1 EO (in), 2 O0 (hiz), 3 D0 (in), 4 D1 (in), 5 O1 (hiz), 6 O2 (hiz), 7 D2 (in), 8 D3 (in), 9 O3 (hiz), 10 GND (power) hidden to GND, 11 E (in), 12 O4 (hiz), 13 D4 (in), 14 D5 (in), 15 O5 (hiz), 16 O6 (hiz), 17 D6 (in), 18 D7 (in), 19 O7 (hiz), 20 VCC (power) hidden to VCC

## 40374
designator U?
footprint DIP-20
pins: 1 EO (in), 2 O0 (hiz), 3 D0 (in), 4 D1 (in), 5 O1 (hiz), 6 O2 (hiz), 7 D2 (in), 8 D3 (in), 9 O3 (hiz), 10 GND (power) hidden to GND, 11 CP (in), 12 O4 (hiz), 13 D4 (in), 14 D5 (in), 15 O5 (hiz), 16 O6 (hiz), 17 D6 (in), 18 D7 (in), 19 O7 (hiz), 20 VCC (power) hidden to VCC

## 42100
designator U?
footprint DIP-16
pins: 1 X2, 2 DATAin (in), 3 C (in), 4 D (in), 5 B (in), 6 A (in), 7 STROBE (in), 8 GND (power) hidden to GND, 9 X1, 10 Y3, 11 Y4, 12 X3, 13 X4, 14 Y2, 15 Y1, 16 VCC (power) hidden to VCC

## 45000
designator U?
footprint DIP-24
pins: 1 FP1 (out), 2 FP2 (out), 3 FP3 (out), 4 FP4 (out), 5 FP5 (out), 6 FP6 (out), 7 FP7 (out), 8 FP8 (out), 9 FP9 (out), 10 FP10 (out), 11 FP11 (out), 12 GND (power) hidden to GND, 13 FP12 (out), 14 BP4 (out), 15 BP3 (out), 16 BP2 (out), 17 BP1 (out), 18 DATA-I (in), 19 D-CLK (in), 20 DATA-O (out), 21 F-SYNC (out), 22 OSC-IN (in), 23 OSC-O (out), 24 VCC (power) hidden to VCC

## 45001
designator U?
footprint DIP-18
pins: 1 FP1 (out), 2 FP2 (out), 3 FP3 (out), 4 FP4 (out), 5 FP5 (out), 6 FP6 (out), 7 FP7 (out), 8 FP8 (out), 9 GND (power) hidden to GND, 10 FP9 (out), 11 FP10 (out), 12 FP11 (out), 13 DATAin (in), 14 D-CLK (in), 15 DATA-O (out), 16 F-SYNC (in), 17 OSC-IN (in), 18 VCC (power) hidden to VCC

## 45026
designator U?
footprint DIP-16
pins: 1 A/D-1 (in), 2 A/D-2 (in), 3 A/D-3 (in), 4 A/D-4 (in), 5 A/D-5 (in), 6 A/D-6 (in), 7 A/D-7 (in), 8 GND (power) hidden to GND, 9 A/D-8 (in), 10 A/D-9 (in), 11 RS, 12 CTC, 13 RTC, 14 TE (in), 15 DATA-O (out), 16 VCC (power) hidden to VCC

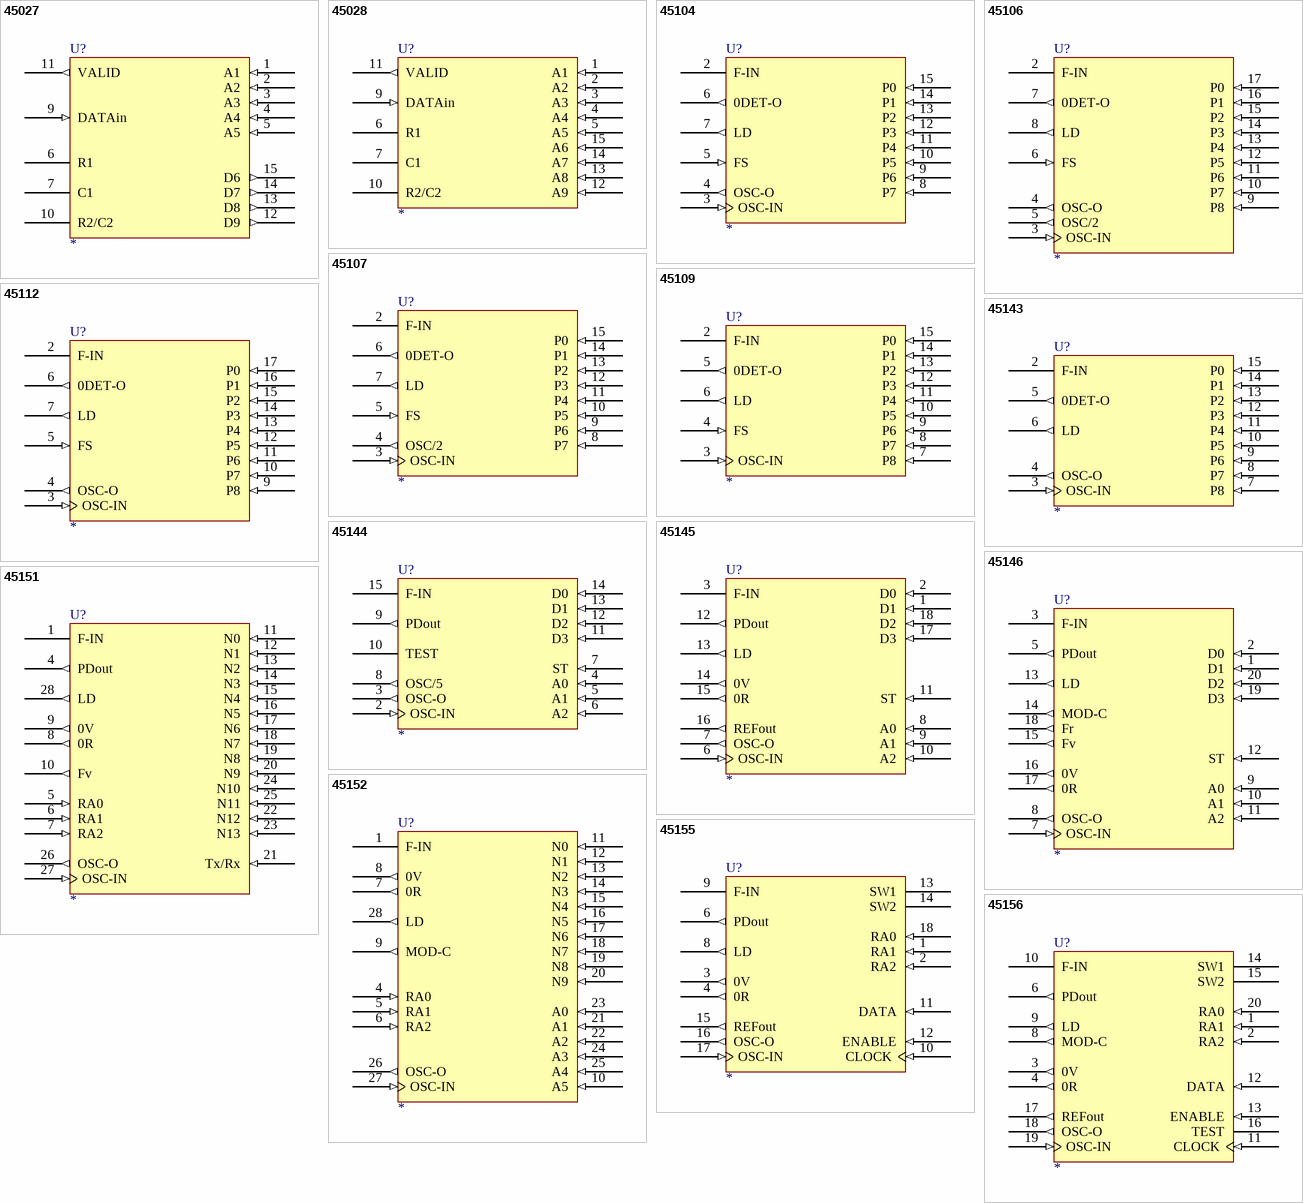
[diagram p7: symbols 45027 to 45156]

## 45027
designator U?
footprint DIP-16
pins: 1 A1 (in), 2 A2 (in), 3 A3 (in), 4 A4 (in), 5 A5 (in), 6 R1, 7 C1, 8 GND (power) hidden to GND, 9 DATAin (in), 10 R2/C2, 11 VALID (out), 12 D9 (out), 13 D8 (out), 14 D7 (out), 15 D6 (out), 16 VCC (power) hidden to VCC

## 45028
designator U?
footprint DIP-16
pins: 1 A1 (in), 2 A2 (in), 3 A3 (in), 4 A4 (in), 5 A5 (in), 6 R1, 7 C1, 8 GND (power) hidden to GND, 9 DATAin (in), 10 R2/C2, 11 VALID (out), 12 A9 (in), 13 A8 (in), 14 A7 (in), 15 A6 (in), 16 VCC (power) hidden to VCC

## 45104
designator U?
footprint DIP-16
pins: 1 VCC (power) hidden to VCC, 2 F-IN, 3 OSC-IN (in), 4 OSC-O (out), 5 FS (in), 6 0DET-O (out), 7 LD (out), 8 P7 (in), 9 P6 (in), 10 P5 (in), 11 P4 (in), 12 P3 (in), 13 P2 (in), 14 P1 (in), 15 P0 (in), 16 GND (power) hidden to GND

## 45106
designator U?
footprint DIP-18
pins: 1 VCC (power) hidden to VCC, 2 F-IN, 3 OSC-IN (in), 4 OSC-O (out), 5 OSC/2 (out), 6 FS (in), 7 0DET-O (out), 8 LD (out), 9 P8 (in), 10 P7 (in), 11 P6 (in), 12 P5 (in), 13 P4 (in), 14 P3 (in), 15 P2 (in), 16 P1 (in), 17 P0 (in), 18 GND (power) hidden to GND

## 45107
designator U?
footprint DIP-16
pins: 1 VCC (power) hidden to VCC, 2 F-IN, 3 OSC-IN (in), 4 OSC/2 (out), 5 FS (in), 6 0DET-O (out), 7 LD (out), 8 P7 (in), 9 P6 (in), 10 P5 (in), 11 P4 (in), 12 P3 (in), 13 P2 (in), 14 P1 (in), 15 P0 (in), 16 GND (power) hidden to GND